# Altium schematic symbol library connector.SchLib: 87 symbols
Pins are listed as number, name and electrical type; pins without a type are passive.

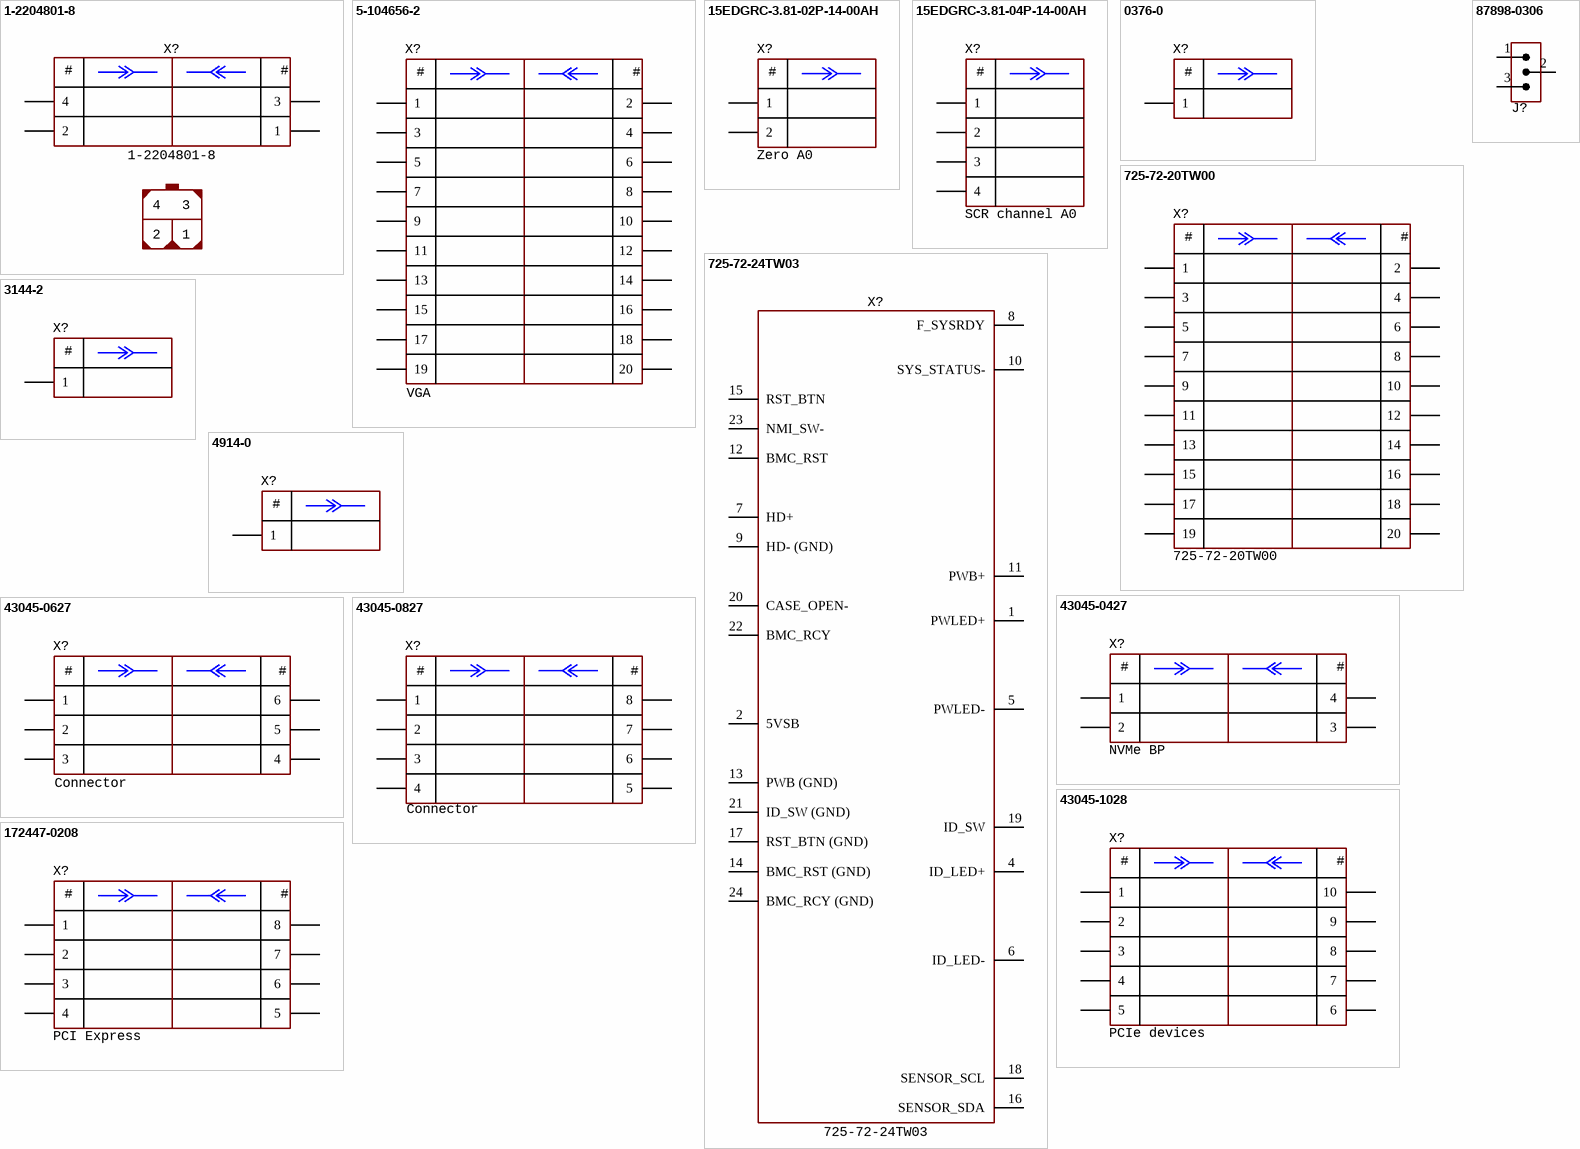
[diagram p0: symbols 1-2204801-8 to 172447-0208]

## 1-2204801-8
designator X?
MicroFit, 4 pins, pitch 3.0 mm, 600V, 12.5A/pin, -40...+105°C; Manufacturer: TE Connectivity; HelpURL: https://ru.mouser.com/ProductDetail/TE-Connectivity/1-2204801-8?qs=%252BEew9%252B0nqrDl53bfbgvSuA%3D%3D; Package: MicroFit; Manufacturer Part Number: 1-2204801-8; Component Type: Connectors; PartNumber: 1-2204801-8
footprint CON: 1-2204801-8 (MicroFit)
pins: 1, 2, 3, 4
text: #

## 5-104656-2
designator X?, comment VGA
20 pins, 2 rows, right angle, pitch 1.27mm, 800VAC, 1A, -65...+105°C; Manufacturer: TE Connectivity; PartNumber: 5-104656-2; Package: 20 pins; HelpURL: https://ru.mouser.com/ProductDetail/TE-Connectivity/5-104656-2?qs=Lt2NK3fy8LDvOZWSqf5A3Q%3D%3D; Manufacturer Part Number: 5-104656-2; Component Type: Connectors
footprint CON: 5-104656-2 (TE)
pins: 1, 2, 3, 4, 5, 6, 7, 8, 9, 10, 11, 12, 13, 14, 15, 16, 17, 18, 19, 20
text: #

## 15EDGRC-3.81-02P-14-00AH
designator X?, comment Zero A0
Terminal, 2 pins, pitch 3.81 mm, 8A/pin, 500VAC; PartNumber: 15EDGRC-3.81-02P-14-00AH; Manufacturer: Degson; Pitch: 3.81 mm; HelpURL: https://www.chipdip.ru/product/kls2-edr-3.81-02p-4-ech381r-02p; Manufacturer Part Number: 15EDGRC-3.81-02P-14-00AH; Component Type: Connectors
footprint CON: 15EDGRC-3.81-02P-14-00AH (Degson) (PLS-4 pin header)
pins: 1, 2
text: #

## 15EDGRC-3.81-04P-14-00AH
designator X?, comment SCR channel A0
Terminal, 4 pins, pitch 3.81 mm, 8A/pin, 500VAC; Manufacturer: Degson; PartNumber: 15EDGRC-3.81-04P-14-00AH; Pitch: 3.81 mm; HelpURL: https://www.chipdip.ru/product/kls2-edr-3.81-04p-4-ech381r-04p; Manufacturer Part Number: 15EDGRC-3.81-04P-14-00AH; Component Type: Connectors
footprint CON: 15EDGRC-3.81-04P-14-00AH (Degson) (PLS-4 pin header)
pins: 1, 2, 3 (power), 4 (power)
text: #

## 0376-0
designator X?
Power Pin, SMT, -55...+150°C; PartNumber: 0376-0-43-80-07-27-10-0; Manufacturer: Mill-Max; HelpURL: https://nl.mouser.com/ProductDetail/Mill-Max/0376-0-43-80-07-27-10-0?qs=SDfxZrmr%252BNnuJ4WrkVI9oQ%3D%3D
footprint CON: 0376-0 (Mill-Max)
pins: 1
text: #

## 725-72-20TW00
designator X?
20 pins, 2 rows, right angle, pitch 2mm, 800VAC, 3A, -25...+85°C; Manufacturer: Pinrex; HelpURL: https://www.pinrex.com.tw/en/product-detail.php?nid=440&Page=0; Package: 20 pins; Component Type: Connectors; PartNumber: 725-72-20TW00
footprint CON: 725-72-20TW00
pins: 1, 2, 3, 4, 5, 6, 7, 8, 9, 10, 11, 12, 13, 14, 15, 16, 17, 18, 19, 20
text: #

## 725-72-24TW03
designator X?
24 pins, 2 rows, right angle, pitch 2mm, 800VAC, 3A, -25...+85°C; Manufacturer: Pinrex; HelpURL: https://www.pinrex.com.tw/en/product-detail.php?nid=440&Page=0; Package: 24 pins; Component Type: Connectors; PartNumber: 725-72-24TW03
footprint CON: 725-72-24TW03
pins: 1 PWLED+, 2 5VSB, 4 ID_LED+, 5 PWLED-, 6 ID_LED-, 7 HD+, 8 F_SYSRDY, 9 HD- (GND), 10 SYS_STATUS-, 11 PWB+, 12 BMC_RST, 13 PWB (GND), 14 BMC_RST (GND), 15 RST_BTN, 16 SENSOR_SDA, 17 RST_BTN (GND), 18 SENSOR_SCL, 19 ID_SW, 20 CASE_OPEN-, 21 ID_SW (GND), 22 BMC_RCY, 23 NMI_SW-, 24 BMC_RCY (GND)

## 3144-2
designator X?
Power Pin, SMT, -55...+150°C; PartNumber: 3144-2-00-15-00-00-08-0; Manufacturer: Mill-Max; HelpURL: https://nl.mouser.com/ProductDetail/Mill-Max/3144-2-00-15-00-00-08-0?qs=1wcGhl1mtLNEqcD7AJY38Q%3D%3D
footprint CON: 3144-2 (Mill-Max)
pins: 1
text: #

## 4914-0
designator X?
Power Pin, SMT, -55...+150°C; PartNumber: 4914-0-00-15-00-00-03-0; Manufacturer: Mill-Max; HelpURL: https://nl.mouser.com/ProductDetail/Mill-Max/4914-0-00-15-00-00-03-0?qs=DRkmTr78QATYLGF4JJ41AA%3D%3D
footprint CON: 4914-0 (Mill-Max)
pins: 1
text: #

## 43045-0427
designator X?, comment NVMe BP
MicroFit, 4 pins, pitch 3.0 mm, 600V, 8.5A/pin, -40...+105°C; PartNumber: 43045-0427; Manufacturer: Molex; Package: MicroFit; HelpURL: https://ru.mouser.com/ProductDetail/Molex/43045-0427?qs=pWIReIhcJCQIugQJD1XCtw%3D%3D; Manufacturer Part Number: 43045-0427; Component Type: Connectors
footprint CON: 43045-0427 (MicroFit)
pins: 1, 2, 3, 4
text: #

## 43045-0627
designator X?, comment Connector
MicroFit, 6 pins, pitch 3.0 mm, 600V, 8.5A/pin, -40...+105°C; PartNumber: 43045-0627; Manufacturer: Molex; Package: MicroFit; HelpURL: https://eu.mouser.com/ProductDetail/Molex/43045-0627?qs=pWIReIhcJCQaGZnxO2uFjA%3D%3D
footprint CON: 43045-0628 (MicroFit)
pins: 1, 2, 3, 4, 5, 6
text: #

## 43045-0827
designator X?, comment Connector
MicroFit, 8 pins, pitch 3.0 mm, 600V, 8.5A/pin, -40...+105°C; PartNumber: 43045-0827; Manufacturer: Molex; Package: MicroFit; HelpURL: https://nl.mouser.com/ProductDetail/Molex/43045-0827?qs=q2qgWaULaqZ1Jeuw2khyfQ%3D%3D
footprint CON: 43045-0828 (MicroFit)
pins: 1, 2, 3, 4, 5, 6, 7, 8
text: #

## 43045-1028
designator X?, comment PCIe devices
MicroFit, 10 pins, pitch 3.0 mm, 600V, 8.5A/pin, -40...+105°C; PartNumber: 43045-1028; Manufacturer: Molex; HelpURL: https://ru.mouser.com/ProductDetail/Molex/43045-1028?qs=Awwwc1gvTnngW0MIXIKoDw%3D%3D; Package: MicroFit; Manufacturer Part Number: 43045-1028; Component Type: Connectors
footprint CON: 43045-1028 (MicroFit)
pins: 1, 2, 3, 4, 5, 6, 7, 8, 9, 10
text: #

## 87898-0306
designator J?, comment Jumper_3 pins  (value not drawn)
3 pins, pitch 2.54 mm, 250V, 3A/pin, -55..+105°C; Manufacturer: Molex; PartNumber: 87898-0306; Package: 3 pins; HelpURL: https://ru.mouser.com/ProductDetail/Molex/87898-0306?qs=snl1aE83ZDvC%252BK1Eig5fVg%3D%3D; Manufacturer Part Number: 87898-0306; Component Type: Connectors
footprint CON: 87898-0306
pins: 1 IN, 2 IN, 3 IN

## 172447-0208
designator X?, comment PCI Express
MiniFit, 8 pins, pitch 4.2 mm, 600V, 9A/pin, -40...+105°C; Manufacturer: Molex; PartNumber: 172447-0208; Manufacturer: Molex Waldom; Package: MiniFit; HelpURL: https://ru.mouser.com/ProductDetail/Molex/172447-0208?qs=c8NFF48pVsCQgdQ5PeIN9w%3D%3D; Manufacturer Part Number: 172447-0208; Component Type: Connectors
footprint CON: 172447-0208
pins: 1, 2, 3, 4, 5, 6, 7, 8
text: #

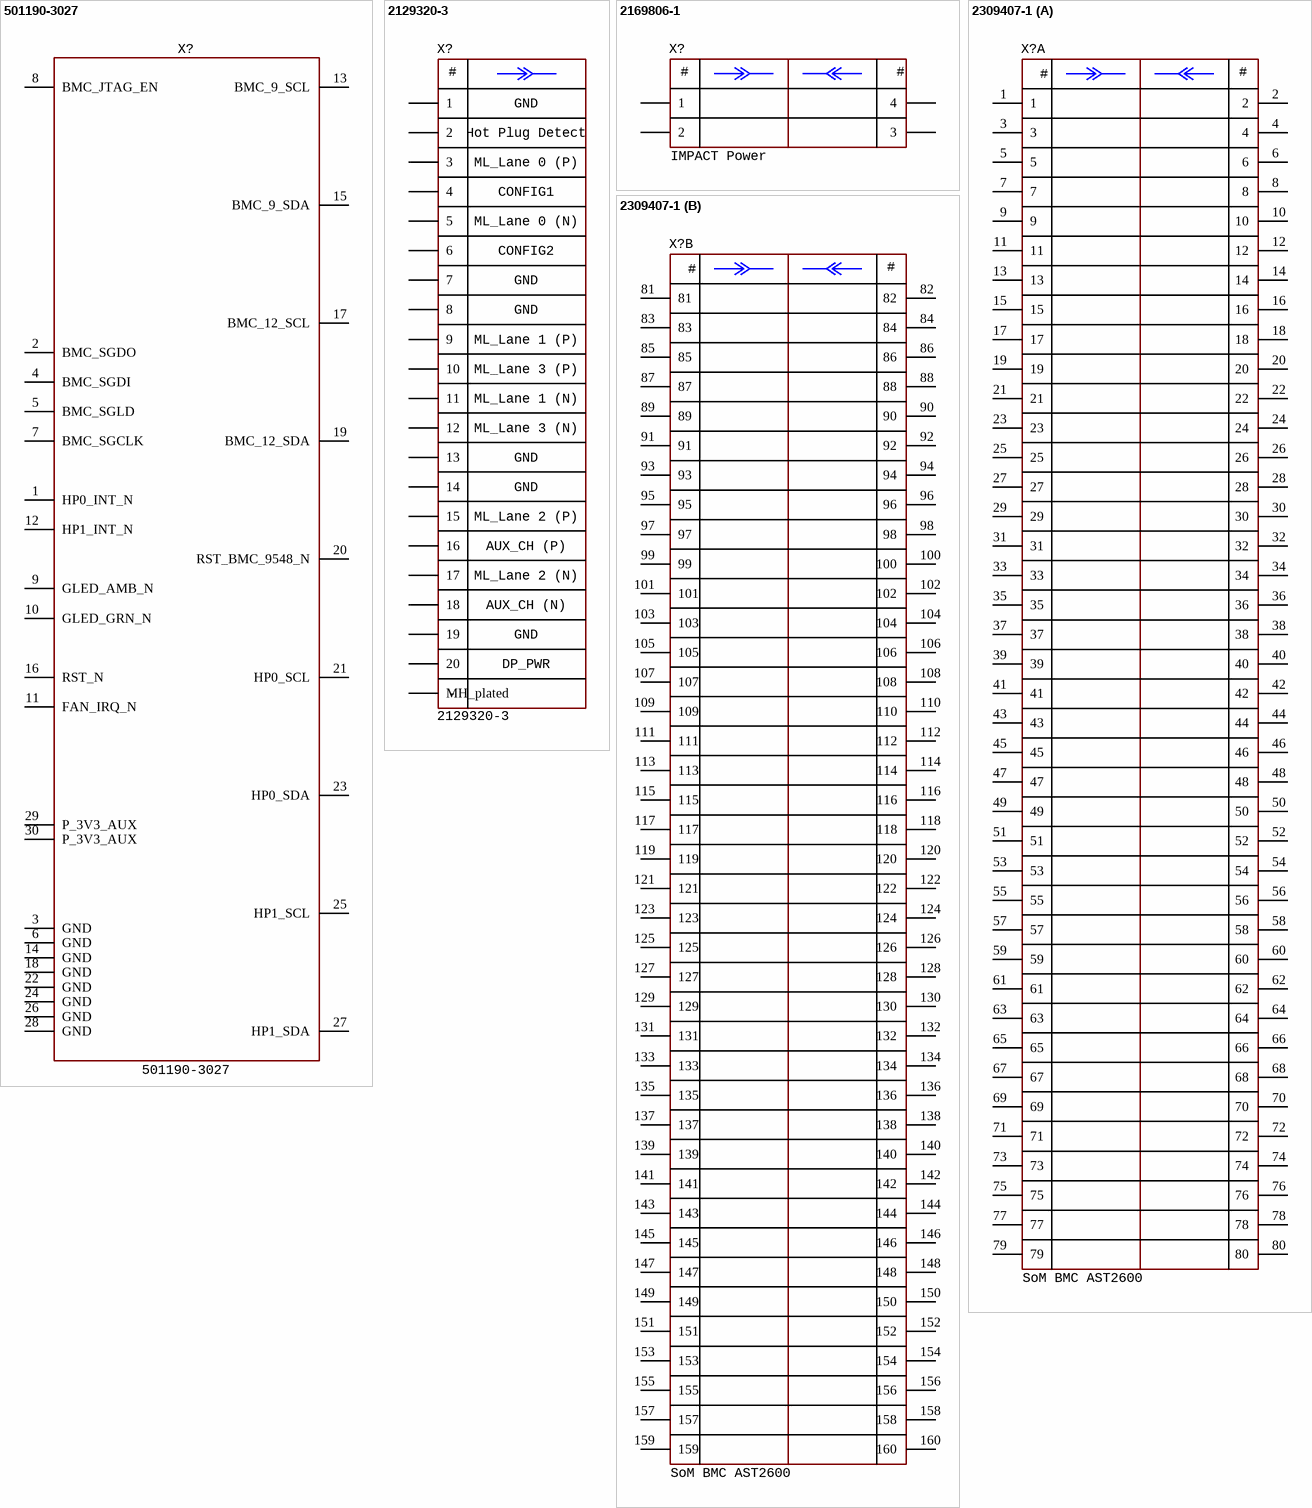
[diagram p1: symbols 501190-3027 to 2309407-1]

## 501190-3027
designator X?
30 pins, pitch 1 mm, 50V, 1A/pin, -40...+105°C; Manufacturer: Molex; HelpURL: https://ru.mouser.com/ProductDetail/Molex/501190-3027?qs=%2Fha2pyFaduhmP4t6q%252BLNjBayHtz4DJoiD%2FshP1L9CN4%3D; Package: 30 pins; Manufacturer Part Number: 501190-3027; Component Type: Connectors; PartNumber: 501190-3027
footprint CON: 501190-3027
pins: 1 HP0_INT_N, 2 BMC_SGDO, 3 GND, 4 BMC_SGDI, 5 BMC_SGLD, 6 GND, 7 BMC_SGCLK, 8 BMC_JTAG_EN, 9 GLED_AMB_N, 10 GLED_GRN_N, 11 FAN_IRQ_N, 12 HP1_INT_N, 13 BMC_9_SCL, 14 GND, 15 BMC_9_SDA, 16 RST_N, 17 BMC_12_SCL, 18 GND, 19 BMC_12_SDA, 20 RST_BMC_9548_N, 21 HP0_SCL, 22 GND, 23 HP0_SDA, 24 GND, 25 HP1_SCL, 26 GND, 27 HP1_SDA, 28 GND, 29 P_3V3_AUX, 30 P_3V3_AUX

## 2129320-3
designator X?
Mini Displayport, 20 pins, 40V, 500mA, -40...+85°C; Manufacturer: TE Connectivity; Package: 20 pins; HelpURL: https://www.mouser.com/ProductDetail/TE-Connectivity/2129320-3?qs=gAfoL%252BRo%2FrI4Ejukv56dUQ%3D%3D; Manufacturer Part Number: 2129320-3; Component Type: Connectors; PartNumber: 2129320-3
footprint CON: 2129320-3 (mini DisplayPort)
pins: 1, 2, 3, 4, 5, 6, 7, 8, 9, 10, 11, 12, 13, 14, 15, 16, 17, 18, 19, 20, MH_plated
text: #; GND; Hot Plug Detect; ML_Lane 0 (P); CONFIG1; ML_Lane 0 (N); CONFIG2; ML_Lane 1 (P); ML_Lane 3 (P); ML_Lane 1 (N); ML_Lane 3 (N); ML_Lane 2 (P); AUX_CH (P); ML_Lane 2 (N); AUX_CH (N); DP_PWR; -

## 2169806-1
designator X?  Package: IMPACT Power  (hidden comment: 2169806-1)
IMPACT, 4 pins, pitch 5.2 mm, 48V, 15A/pin, -55...+85°C; Manufacturer: TE Connectivity; HelpURL: https://ru.mouser.com/ProductDetail/TE-Connectivity/2169806-1?qs=sGAEpiMZZMvlX3nhDDO4AMdvGaAo8O2GUpJP6EXVajA%3D; PartNumber: 2169806-1; Manufacturer Part Number: 2169806-1; Component Type: Connectors
footprint CON: 2169806-1
pins: 1, 2, 3, 4
text: #

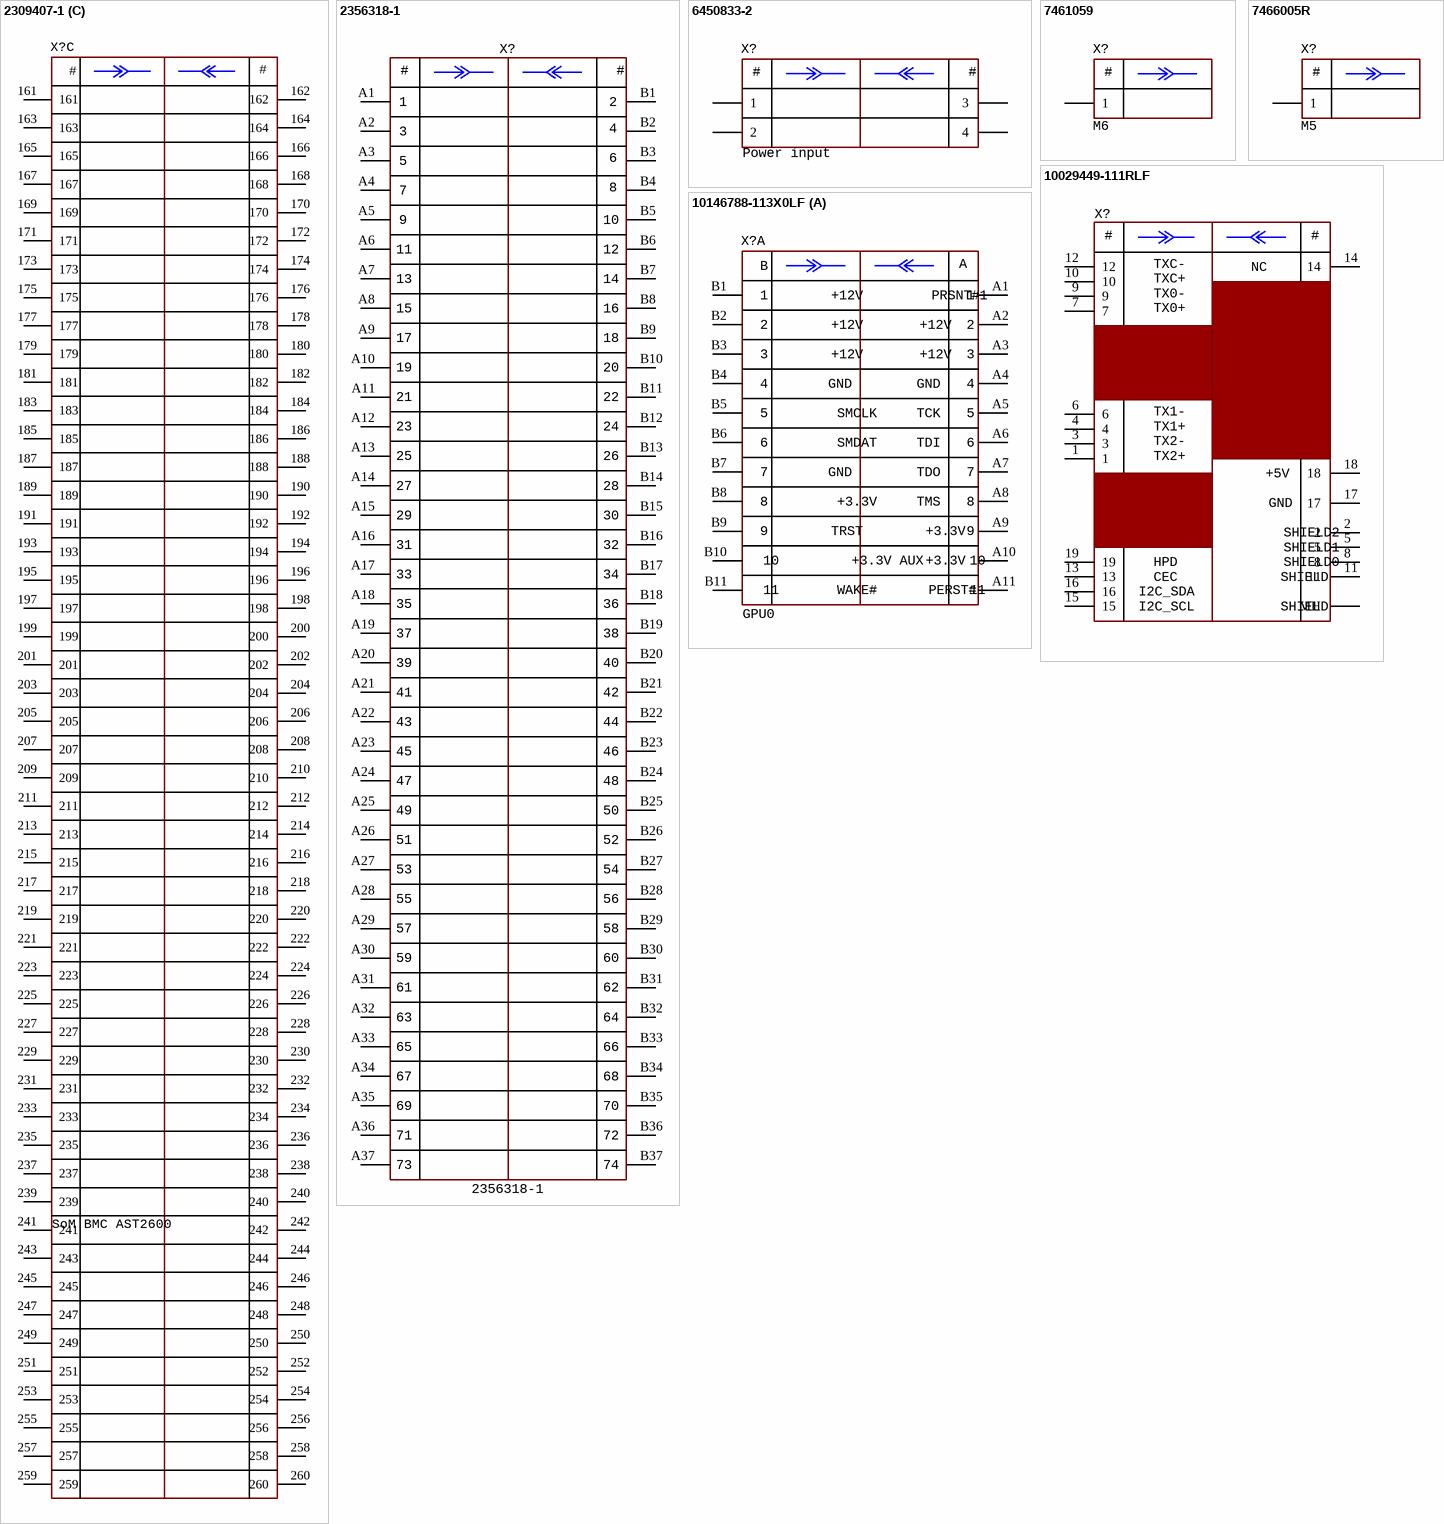
[diagram p2: symbols 2309407-1 to 10146788-113X0LF]

## 2309407-1
designator X?, comment SoM BMC AST2600
SODIMM DDR4, 260 pins, pitch 0.5 mm, 0.5A/pin, Right Angle, -55...+85C; Manufacturer: TE connectivity; PartNumber: 2309407-1; Pitch: 0.5mm; HelpURL: https://www.digikey.com/en/products/detail/te-connectivity-amp-connectors/2309407-1/7793534; Manufacturer: TE Connectivity; Manufacturer Part Number: 2309407-1; Component Type: Connectors
footprint CON: 2309407-1 (TE, SODIMM DDR4)
part A pins: 1, 2, 3, 4, 5, 6, 7, 8, 9, 10, 11, 12, 13, 14, 15, 16, 17, 18, 19, 20, 21, 22, 23, 24, 25, 26, 27, 28, 29, 30, 31, 32, 33, 34, 35, 36, 37, 38, 39, 40, 41, 42, 43, 44, 45, 46, 47, 48, 49, 50, 51, 52, 53, 54, 55, 56, 57, 58, 59, 60, 61, 62, 63, 64, 65, 66, 67, 68, 69, 70, 71, 72, 73, 74, 75, 76, 77, 78, 79, 80
part B pins: 81, 82, 83, 84, 85, 86, 87, 88, 89, 90, 91, 92, 93, 94, 95, 96, 97, 98, 99, 100, 101, 102, 103, 104, 105, 106, 107, 108, 109, 110, 111, 112, 113, 114, 115, 116, 117, 118, 119, 120, 121, 122, 123, 124, 125, 126, 127, 128, 129, 130, 131, 132, 133, 134, 135, 136, 137, 138, 139, 140, 141, 142, 143, 144, 145, 146, 147, 148, 149, 150, 151, 152, 153, 154, 155, 156, 157, 158, 159, 160
part C pins: 161, 162, 163, 164, 165, 166, 167, 168, 169, 170, 171, 172, 173, 174, 175, 176, 177, 178, 179, 180, 181, 182, 183, 184, 185, 186, 187, 188, 189, 190, 191, 192, 193, 194, 195, 196, 197, 198, 199, 200, 201, 202, 203, 204, 205, 206, 207, 208, 209, 210, 211, 212, 213, 214, 215, 216, 217, 218, 219, 220, 221, 222, 223, 224, 225, 226, 227, 228, 229, 230, 231, 232, 233, 234, 235, 236, 237, 238, 239, 240, 241, 242, 243, 244, 245, 246, 247, 248, 249, 250, 251, 252, 253, 254, 255, 256, 257, 258, 259, 260
part A text: #
part B text: #
part C text: #

## 2356318-1
designator X?
SlimSAS, x8 line, 74 pins, 0.5A/pin, SFF-8654, vertical, -55...+85°C; Manufacturer: TE connectivity; Manufacturer: TE Connectivity AMP; Multichannel: 74pin; HelpURL: https://www.te.com/usa-en/product-2356318-1.html; Manufacturer Part Number: 2356318-1; Component Type: Connectors; PartNumber: 2356318-1
footprint CON: 2356318-1 (SlimSAS)
pins: A1, A2, A3, A4, A5, A6, A7, A8, A9, A10, A11, A12, A13, A14, A15, A16, A17, A18, A19, A20, A21, A22, A23, A24, A25, A26, A27, A28, A29, A30, A31, A32, A33, A34, A35, A36, A37, B1, B2, B3, B4, B5, B6, B7, B8, B9, B10, B11, B12, B13, B14, B15, B16, B17, B18, B19, B20, B21, B22, B23, B24, B25, B26, B27, B28, B29, B30, B31, B32, B33, B34, B35, B36, B37
text: #; 1; 2; 3; 4; 5; 6; 7; 8; 9; 10; 11; 12; 13; 14; 15; 16; 17; 18; 19; 20; 21; 22; 23; 24; 25; 26; 27; 28; 29; 30; 31; 32; 33; 34; 35; 36; 37; 38; 39; 40; 41; 42; 43; 44; 45; 46; 47; 48; 49; 50; 51; 52; 53; 54; 55; 56; 57; 58; 59; 60; 61; 62; 63; 64; 65; 66; 67; 68; 69; 70; 71; 72; 73; 74

## 6450833-2
designator X?, comment Power input
Power, 4 pins, pitch 6.35 mm, 200V, 50A/pin, -40...+125°C; PartNumber: 6450833-2; Manufacturer: TE connectivity; Package: Milti-Beam; HelpURL: https://www.te.com/usa-en/product-6450833-2.html; Manufacturer Part Number: 6450833-2; Component Type: Connectors
footprint CON: 6450833-2
pins: 1, 2, 3, 4
text: #

## 7461059
designator X?, comment M6
Power, 240A, screw M6, SMT, -55...+150°C; Manufacturer: Wurth; PartNumber: 7461059; Manufacturer: Wurth Electronics; Manufacturer Part Number: 746105-9; HelpURL: https://ru.mouser.com/ProductDetail/Wurth-Elektronik/7461059?qs=wr8lucFkNMXpCcsX18jYrg%3D%3D; CurrentMax: 240A; Component Type: Connectors
footprint CON: 7461059 (Wurth, connector)
pins: 1
text: #

## 7466005R
designator X?, comment M5
Power, 70A, screw M5, SMT, -55...+150°C; PartNumber: 7466005R; Manufacturer: Wurth; Manufacturer: Wurth Electronics; CurrentMax: 70A; HelpURL: https://ru.mouser.com/ProductDetail/Wurth-Elektronik/7466005R?qs=%2Fha2pyFaduhfC75xZf%2FkSPkISoniVULe8jSjv8nZiNA%3D; Manufacturer Part Number: 7466005R; Component Type: Connectors
footprint CON: 7466005R (Wurth, connector)
pins: 1
text: #

## 10029449-111RLF
designator X?  (value not drawn)
HDMI 1.4, 0.5A/pin, 19 pins, -20...+85°C
footprint CON: HDMI_10029449-111RLF (HDMI 1.4, Amphenol)
pins: 1, 2, 3, 4, 5, 6, 7, 8, 9, 10, 11, 12, 13, 14, 15, 16, 17, 18, 19, MH (power)
text: #; TXC-; NC; TXC+; TX0-; TX0+; TX1-; TX1+; TX2-; TX2+; +5V; GND; SHIELD2; SHIELD1; HPD; SHIELD0; CEC; SHIELD; I2C_SDA; I2C_SCL

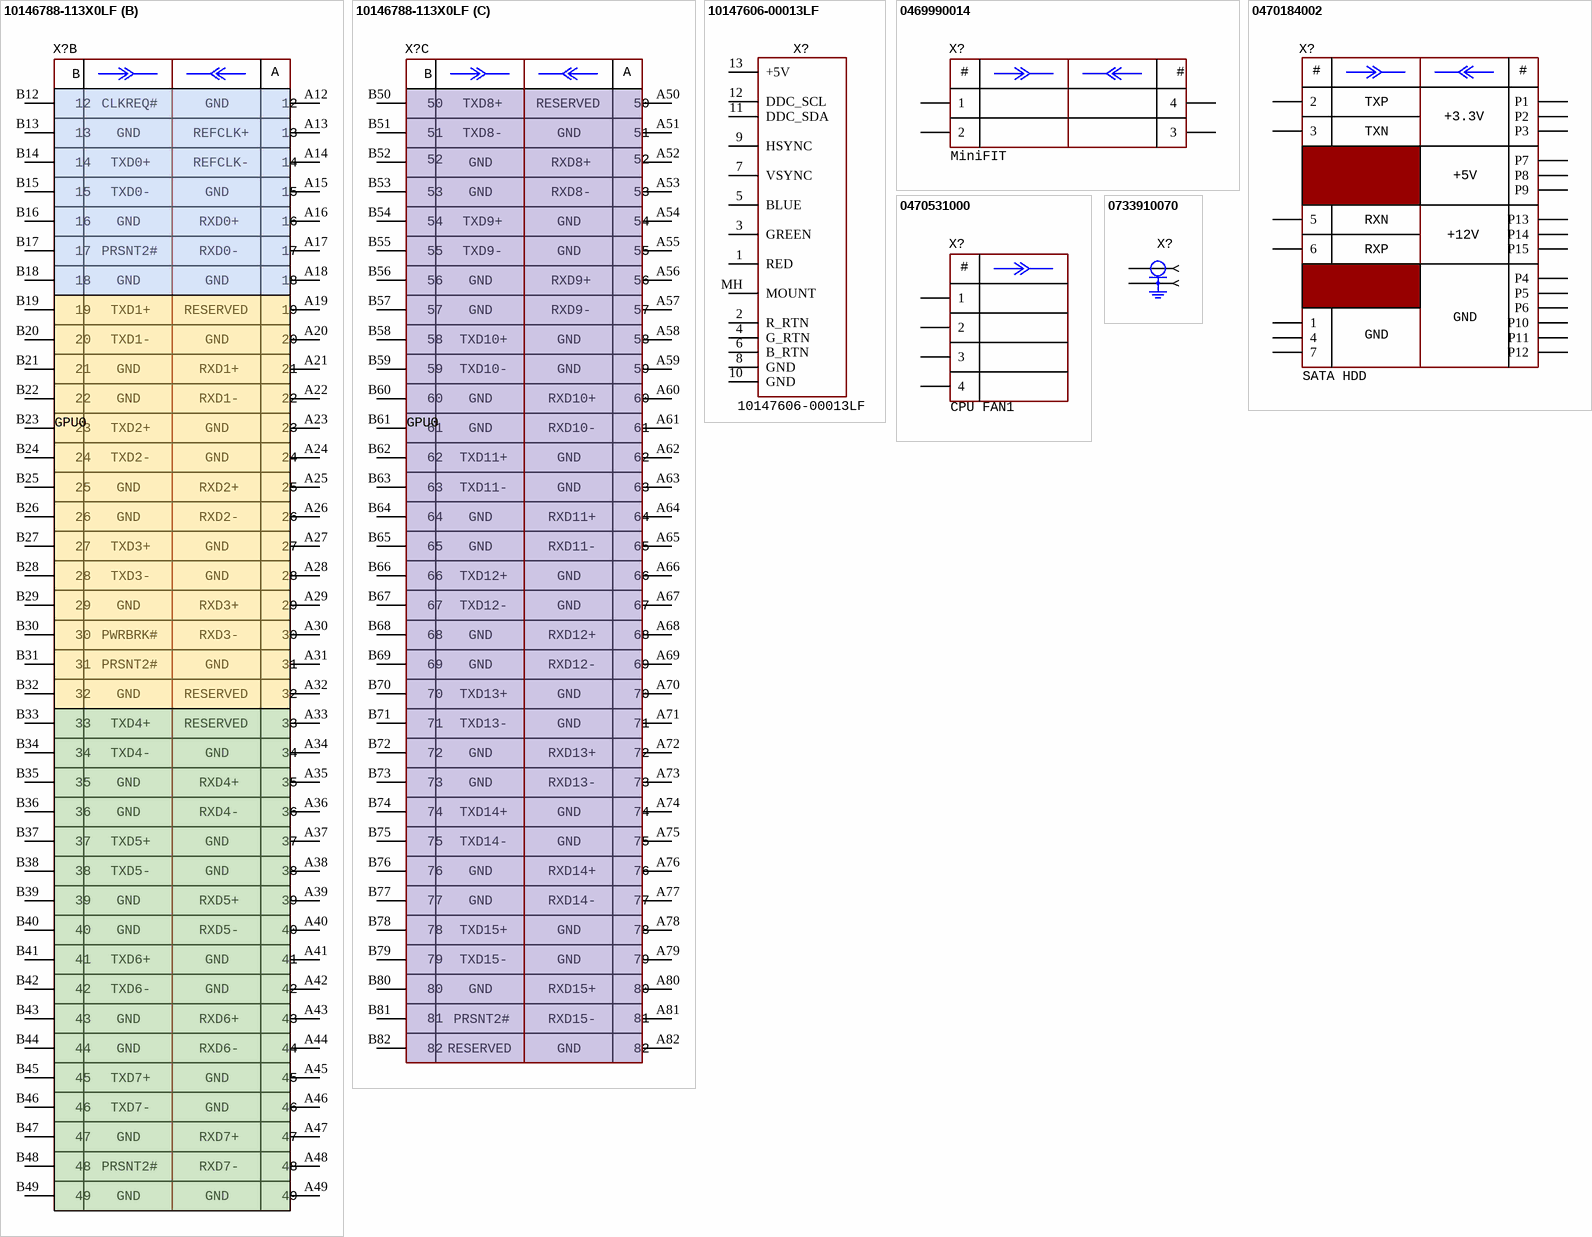
[diagram p3: symbols 10146788-113X0LF to 0733910070]

## 10146788-113X0LF
designator X?, comment GPU0
PCI Express, Gen 4.0, x16 lines, 16 GT/s, 164 pins, pitch 1.0 mm, -40...+85°C; Manufacturer: Amphenol; PartNumber: 10146788-113X0LF; Package: 164 pins; HelpURL: https://ru.mouser.com/ProductDetail/Amphenol-FCI/10146788-113X0LF?qs=%2Fha2pyFaduiZ3BNDDmmOwFvvuIsdFP13VBsbwrHibeSmGIMmp8JGvg%3D%3D; Manufacturer Part Number: 10146788-113X0LF; Component Type: Connectors
footprint CON: 10146788-113X0LF (PCIe gen 4, Amphenol)
part A pins: A1, A2, A3, A4, A5, A6, A7, A8, A9, A10, A11, B1, B2, B3, B4, B5, B6, B7, B8, B9, B10, B11
part B pins: A12, A13, A14, A15, A16, A17, A18, A19, A20, A21, A22, A23, A24, A25, A26, A27, A28, A29, A30, A31, A32, A33, A34, A35, A36, A37, A38, A39, A40, A41, A42, A43, A44, A45, A46, A47, A48, A49, B12, B13, B14, B15, B16, B17, B18, B19, B20, B21, B22, B23, B24, B25, B26, B27, B28, B29, B30, B31, B32, B33, B34, B35, B36, B37, B38, B39, B40, B41, B42, B43, B44, B45, B46, B47, B48, B49
part C pins: A50, A51, A52, A53, A54, A55, A56, A57, A58, A59, A60, A61, A62, A63, A64, A65, A66, A67, A68, A69, A70, A71, A72, A73, A74, A75, A76, A77, A78, A79, A80, A81, A82, B50, B51, B52, B53, B54, B55, B56, B57, B58, B59, B60, B61, B62, B63, B64, B65, B66, B67, B68, B69, B70, B71, B72, B73, B74, B75, B76, B77, B78, B79, B80, B81, B82
part A text: B; A; 1; +12V; PRSNT#1; 2; 3; 4; GND; 5; SMCLK; TCK; 6; SMDAT; TDI; 7; TDO; 8; +3.3V; TMS; 9; TRST; 10; +3.3V AUX; 11; WAKE#; PERST#
part B text: B; A; 12; CLKREQ#; GND; 13; REFCLK+; 14; TXD0+; REFCLK-; 15; TXD0-; 16; RXD0+; 17; PRSNT2#; RXD0-; 18; 19; TXD1+; RESERVED; 20; TXD1-; 21; RXD1+; 22; RXD1-; 23; TXD2+; 24; TXD2-; 25; RXD2+; 26; RXD2-; 27; TXD3+; 28; TXD3-; 29; RXD3+; 30; PWRBRK#; RXD3-; 31; 32; 33; TXD4+; 34; TXD4-; 35; RXD4+; 36; RXD4-; 37; TXD5+; 38; TXD5-; 39; RXD5+; 40; RXD5-; 41; TXD6+; 42; TXD6-; 43; RXD6+; 44; RXD6-; 45; TXD7+; 46; TXD7-; 47; RXD7+; 48; RXD7-; 49
part C text: B; A; 50; TXD8+; RESERVED; 51; TXD8-; GND; 52; RXD8+; 53; RXD8-; 54; TXD9+; 55; TXD9-; 56; RXD9+; 57; RXD9-; 58; TXD10+; 59; TXD10-; 60; RXD10+; 61; RXD10-; 62; TXD11+; 63; TXD11-; 64; RXD11+; 65; RXD11-; 66; TXD12+; 67; TXD12-; 68; RXD12+; 69; RXD12-; 70; TXD13+; 71; TXD13-; 72; RXD13+; 73; RXD13-; 74; TXD14+; 75; TXD14-; 76; RXD14+; 77; RXD14-; 78; TXD15+; 79; TXD15-; 80; RXD15+; 81; PRSNT2#; RXD15-; 82

## 10147606-00013LF
designator X?
Minitek, 13 pins, pitch 1mm, 50V, 1A, right angle, -25...+85°C; Manufacturer: Amphenol; Manufacturer: Amphenol ICC; Package: 13 pins; HelpURL: https://ru.mouser.com/ProductDetail/Amphenol-FCI/10147606-00013LF?qs=byeeYqUIh0MSYaZnBqn0EQ%3D%3D; Manufacturer Part Number: 10147606-00013LF; Component Type: Connectors; PartNumber: 10147606-00013LF
footprint CON: 10147606-00013LF (Amphenol)
pins: 1 RED, 2 R_RTN, 3 GREEN, 4 G_RTN, 5 BLUE, 6 B_RTN, 7 VSYNC, 8 GND, 9 HSYNC, 10 GND, 11 DDC_SDA, 12 DDC_SCL, 13 +5V, MH MOUNT

## 0469990014
designator X?, comment MiniFIT
MiniFit, 4 pins, pitch 4.2 mm, 600V, 20A/pin, -40...+105°C; PartNumber: 0469990014; Manufacturer: Molex; Manufacturer Part Number: 172447-0206; Package: MiniFit; HelpURL: https://www.digikey.com/en/products/detail/molex/0469990014/4553678; Component Type: Connectors
footprint CON: 0469990014 (MiniFitm 4 pins, 90)
pins: 1, 2, 3, 4
text: #

## 0470184002
designator X?, comment SATA HDD
SATA HDD, 7+15 pins, 24 GT/s, Right angle, -55...+85°C; Manufacturer: Molex; PartNumber: 0470184002; Multichannel: 74pin; HelpURL: https://www.amphenol-cs.com/slim-line-sas-u10a474200t.html
footprint CON: 0470184002 (Molex, SATA HDD)
pins: 1, 2, 3, 4, 5, 6, 7, P1, P2, P3, P4, P5, P6, P7, P8, P9, P10, P11, P12, P13, P14, P15
text: #; TXP; +3.3V; TXN; +5V; RXN; +12V; RXP; GND

## 0470531000
designator X?, comment CPU FAN1
Fan, 4 pins, pitch 2.54 mm, 3A/pins, 600V, -40...+125°C; PartNumber: 0470531000; Manufacturer: Molex; Pitch: 2.54mm; HelpURL: https://www.digikey.com/en/products/detail/molex/0470531000/2421261?s=N4IgTCBcDaICwHYAMBWAzAWgIxNyAugL5A; Manufacturer Part Number: 0470531000; Component Type: Connectors
footprint CON: 0470531000 (Molex, CPU fan)
pins: 1, 2, 3, 4 (power)
text: #

## 0733910070
designator X?, comment SMA  (value not drawn)
SMA, RF type, 50 Ohms, 18GHz, -40...+125°C; PartNumber: 0733910070; Manufacturer: Molex; Pitch: SMA; HelpURL: https://www.digikey.com/en/products/detail/molex/0733910070/1465166
footprint CON: SMA
pins: 1, 2

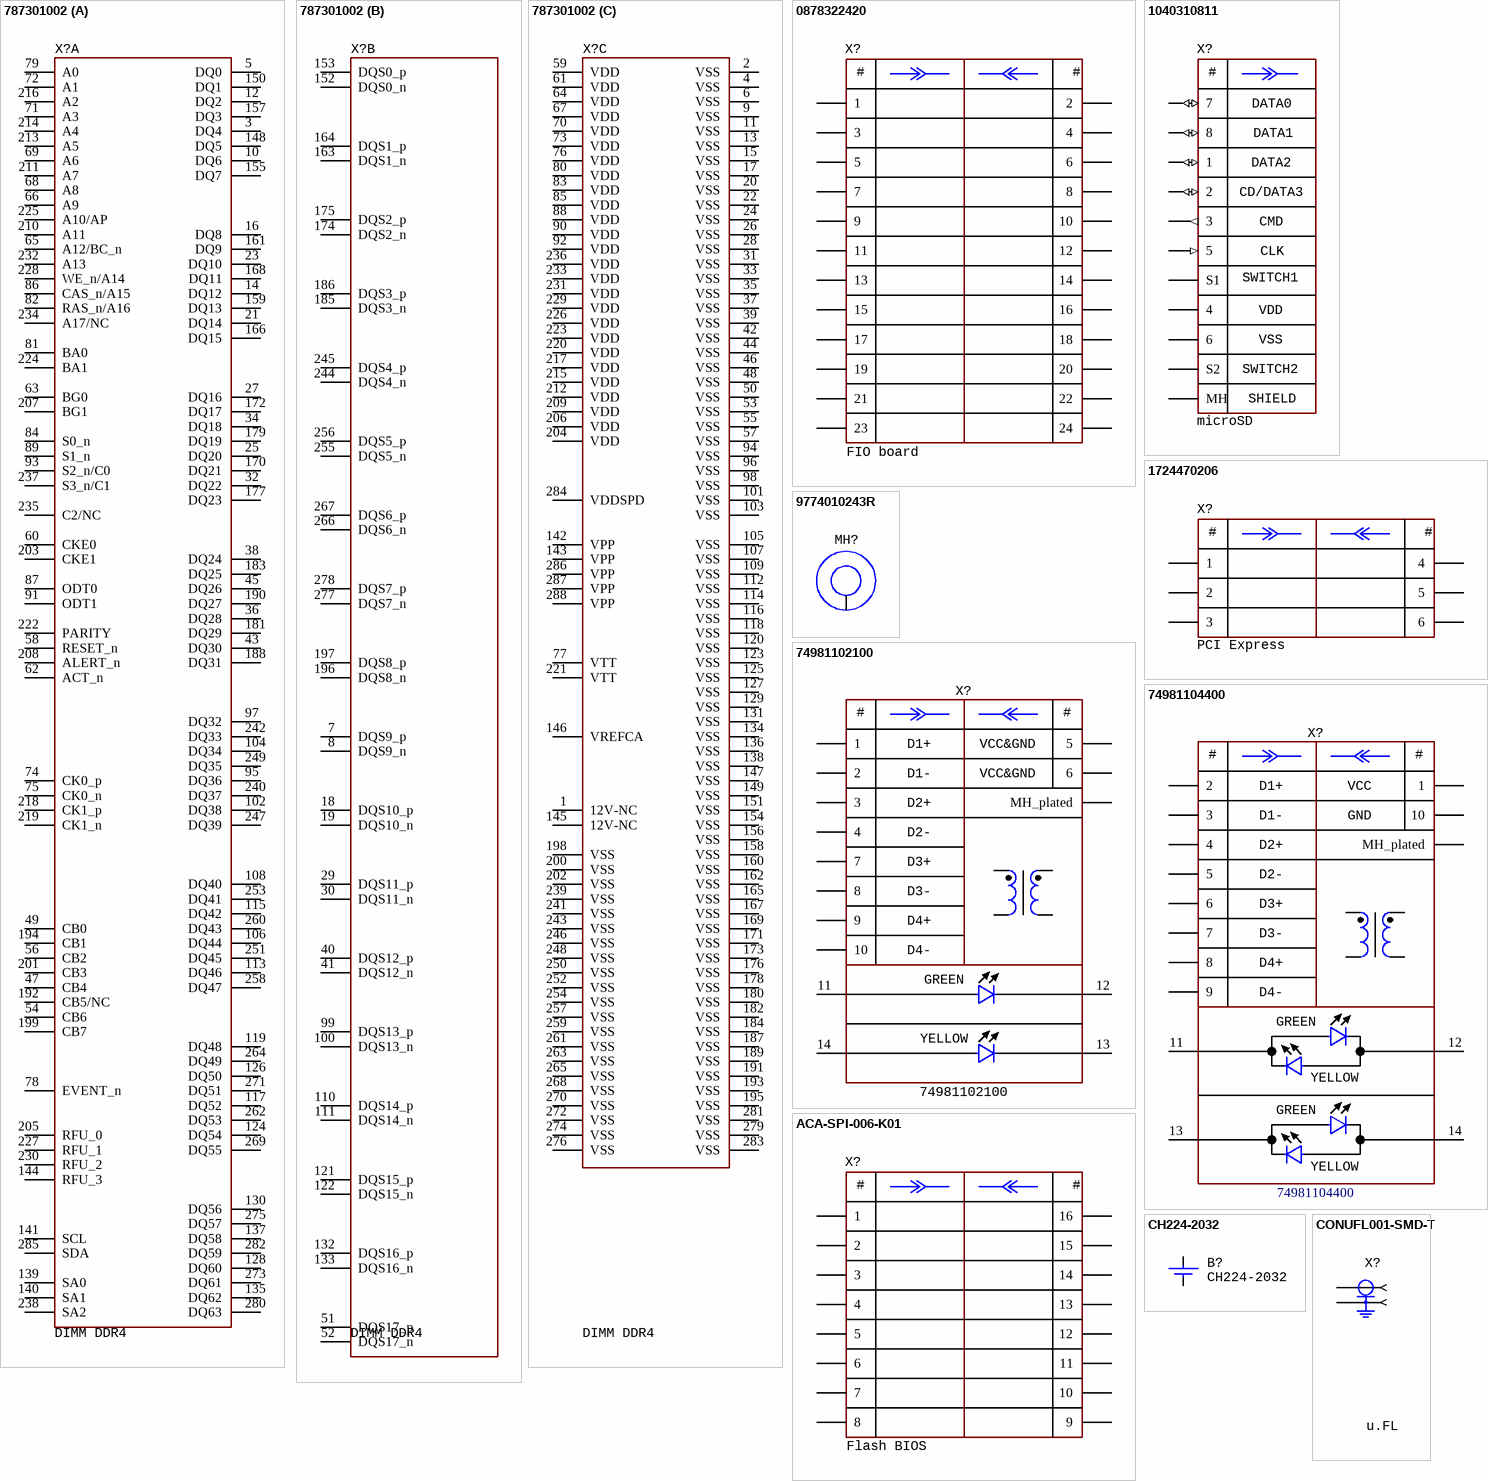
[diagram p4: symbols 787301002 to CONUFL001-SMD-T]

## 787301002
designator X?, comment DIMM DDR4
DIMM DDR4, 288 pins, pitch 0.85 mm, 0.75A/pitch, -55...+85°C; Manufacturer: Molex; PartNumber: 787301002; Manufacturer: Molex Waldom; Manufacturer Part Number: 78730-1002; Package: DIMM288; HelpURL: https://ru.mouser.com/ProductDetail/Molex/78730-1002?qs=KpdAywxU010ovIFyMH8J7A%3D%3D; Component Type: Connectors
footprint CON: 787301002 (Molex, DIMM DDR4) (DIMM DDR4 288 pins)
part A pins: 3 DQ4, 5 DQ0, 10 DQ6, 12 DQ2, 14 DQ12, 16 DQ8, 21 DQ14, 23 DQ10, 25 DQ20, 27 DQ16, 32 DQ22, 34 DQ18, 36 DQ28, 38 DQ24, 43 DQ30, 45 DQ26, 47 CB4, 49 CB0, 54 CB6, 56 CB2, 58 RESET_n, 60 CKE0, 62 ACT_n, 63 BG0, 65 A12/BC_n, 66 A9, 68 A8, 69 A6, 71 A3, 72 A1, 74 CK0_p, 75 CK0_n, 78 EVENT_n, 79 A0, 81 BA0, 82 RAS_n/A16, 84 S0_n, 86 CAS_n/A15, 87 ODT0, 89 S1_n, 91 ODT1, 93 S2_n/C0, 95 DQ36, 97 DQ32, 102 DQ38, 104 DQ34, 106 DQ44, 108 DQ40, 113 DQ46, 115 DQ42, 117 DQ52, 119 DQ48, 124 DQ54, 126 DQ50, 128 DQ60, 130 DQ56, 135 DQ62, 137 DQ58, 139 SA0, 140 SA1, 141 SCL, 144 RFU_3, 148 DQ5, 150 DQ1, 155 DQ7, 157 DQ3, 159 DQ13, 161 DQ9, 166 DQ15, 168 DQ11, 170 DQ21, 172 DQ17, 177 DQ23, 179 DQ19, 181 DQ29, 183 DQ25, 188 DQ31, 190 DQ27, 192 CB5/NC, 194 CB1, 199 CB7, 201 CB3, 203 CKE1, 205 RFU_0, 207 BG1, 208 ALERT_n, 210 A11, 211 A7, 213 A5, 214 A4, 216 A2, 218 CK1_p, 219 CK1_n, 222 PARITY, 224 BA1, 225 A10/AP, 227 RFU_1, 228 WE_n/A14, 230 RFU_2, 232 A13, 234 A17/NC, 235 C2/NC, 237 S3_n/C1, 238 SA2, 240 DQ37, 242 DQ33, 247 DQ39, 249 DQ35, 251 DQ45, 253 DQ41, 258 DQ47, 260 DQ43, 262 DQ53, 264 DQ49, 269 DQ55, 271 DQ51, 273 DQ61, 275 DQ57, 280 DQ63, 282 DQ59, 285 SDA
part B pins: 7 DQS9_p, 8 DQS9_n, 18 DQS10_p, 19 DQS10_n, 29 DQS11_p, 30 DQS11_n, 40 DQS12_p, 41 DQS12_n, 51 DQS17_p, 52 DQS17_n, 99 DQS13_p, 100 DQS13_n, 110 DQS14_p, 111 DQS14_n, 121 DQS15_p, 122 DQS15_n, 132 DQS16_p, 133 DQS16_n, 152 DQS0_n, 153 DQS0_p, 163 DQS1_n, 164 DQS1_p, 174 DQS2_n, 175 DQS2_p, 185 DQS3_n, 186 DQS3_p, 196 DQS8_n, 197 DQS8_p, 244 DQS4_n, 245 DQS4_p, 255 DQS5_n, 256 DQS5_p, 266 DQS6_n, 267 DQS6_p, 277 DQS7_n, 278 DQS7_p
part C pins: 1 12V-NC, 2 VSS, 4 VSS, 6 VSS, 9 VSS, 11 VSS, 13 VSS, 15 VSS, 17 VSS, 20 VSS, 22 VSS, 24 VSS, 26 VSS, 28 VSS, 31 VSS, 33 VSS, 35 VSS, 37 VSS, 39 VSS, 42 VSS, 44 VSS, 46 VSS, 48 VSS, 50 VSS, 53 VSS, 55 VSS, 57 VSS, 59 VDD, 61 VDD, 64 VDD, 67 VDD, 70 VDD, 73 VDD, 76 VDD, 77 VTT, 80 VDD, 83 VDD, 85 VDD, 88 VDD, 90 VDD, 92 VDD, 94 VSS, 96 VSS, 98 VSS, 101 VSS, 103 VSS, 105 VSS, 107 VSS, 109 VSS, 112 VSS, 114 VSS, 116 VSS, 118 VSS, 120 VSS, 123 VSS, 125 VSS, 127 VSS, 129 VSS, 131 VSS, 134 VSS, 136 VSS, 138 VSS, 142 VPP, 143 VPP, 145 12V-NC, 146 VREFCA, 147 VSS, 149 VSS, 151 VSS, 154 VSS, 156 VSS, 158 VSS, 160 VSS, 162 VSS, 165 VSS, 167 VSS, 169 VSS, 171 VSS, 173 VSS, 176 VSS, 178 VSS, 180 VSS, 182 VSS, 184 VSS, 187 VSS, 189 VSS, 191 VSS, 193 VSS, 195 VSS, 198 VSS, 200 VSS, 202 VSS, 204 VDD, 206 VDD, 209 VDD, 212 VDD, 215 VDD, 217 VDD, 220 VDD, 221 VTT, 223 VDD, 226 VDD, 229 VDD, 231 VDD, 233 VDD, 236 VDD, 239 VSS, 241 VSS, 243 VSS, 246 VSS, 248 VSS, 250 VSS, 252 VSS, 254 VSS, 257 VSS, 259 VSS, 261 VSS, 263 VSS, 265 VSS, 268 VSS, 270 VSS, 272 VSS, 274 VSS, 276 VSS, 279 VSS, 281 VSS, 283 VSS, 284 VDDSPD, 286 VPP, 287 VPP, 288 VPP

## 0878322420
designator X?, comment FIO board
24 pins, 2 rows, vertical, pitch 2.0mm, 800VAC, 1A, -55...+105°C; PartNumber: 0878322420; Manufacturer: Molex; HelpURL: https://ru.mouser.com/ProductDetail/Molex/87832-2420?qs=vZWlbdSpF0EW3Ua8ltGHVA%3D%3D; Package: 24 pins; Manufacturer Part Number: 0878322420; Component Type: Connectors
footprint CON: 0878322420 (Molex)
pins: 1, 2, 3, 4, 5, 6, 7, 8, 9, 10, 11, 12, 13, 14, 15, 16, 17, 18, 19, 20, 21, 22, 23, 24
text: #

## 1040310811
designator X?  CommentText: microSD
Micro SD card; Manufacturer: Molex; PartNumber: 1040310811; HelpURL: https://www.digikey.com/en/products/detail/molex/1040310811/2370379; TypeConnector: MicroSD
footprint CON: 1040310811 (Molex, SD card)
pins: 1 (io), 2 (io), 3 (out), 4 (power), 5 (in), 6 (power), 7 (io), 8 (io), MH (power), S1 (power), S2 (power)
text: #; DATA0; DATA1; DATA2; CD/DATA3; CMD; CLK; SWITCH1; VDD; VSS; SWITCH2; SHIELD

## 1724470206
designator X?, comment PCI Express
MiniFit, 6 pins, pitch 4.2 mm, 600V, 20A/pin, -40...+105°C; PartNumber: 1724470206; Manufacturer: Molex; Manufacturer Part Number: 172447-0206; Package: MiniFit; HelpURL: https://ru.mouser.com/ProductDetail/Molex/172447-0206?qs=%2Fha2pyFaduiUkFjULGNAvzlB%252B0wEFVBBxvHZprz4rk8b57tECn5pOQ%3D%3D; Component Type: Connectors
footprint CON: 1724470206 (MiniFit)
pins: 1, 2, 3, 4, 5, 6
text: #

## 9774010243R
designator MH?
Heatsink, screw M2, SMT, -55...+150°C; PartNumber: 9774010243R; Manufacturer: Wurth; HelpURL: https://nl.mouser.com/ProductDetail/Wurth-Elektronik/9774010243R?qs=KRpiEsko4HkaTqaGk3jJpg%3D%3D
footprint CON: 9774010243R (M2 screw)
pins: 1

## 74981102100
designator X?
RJ45 with transformer, Straight, 10/100Base-T, Yellow/Green LED, -40...85°C; Manufacturer: Wurth; HelpURL: https://eu.mouser.com/ProductDetail/Wurth-Elektronik/74981102100?qs=OlC7AqGiEDmN%252BWxPDVYJ%252Bw%3D%3D; Pitch: RJ45; PartNumber: 74981102100
footprint 74981102100 (Ethernet RJ45 with transformer, Wurth)
pins: 1, 2, 3, 4, 5, 6, 7, 8, 9, 10, 11, 12, 13, 14, MH_plated
text: #; D1+; VCC&GND; D1-; D2+; D2-; D3+; D3-; D4+; D4-; GREEN; YELLOW

## 74981104400
designator X?
RJ45 with transformer, 10/100Base-T, Yellow/Green LED, -40...85°C; Manufacturer: Wurth; Manufacturer: Wurth Electronics; HelpURL: https://www.mouser.com/ProductDetail/Wurth-Elektronik/74981104400?qs=T3oQrply3y8se8rzJsvDgg%3D%3D; Pitch: RJ45; Manufacturer Part Number: 74981104400; Component Type: Connectors; PartNumber: 74981104400
footprint CON: 74981104400 (Ethernet RJ45 with transformer, Wurth)
pins: 1, 2, 3, 4, 5, 6, 7, 8, 9, 10, 11, 12, 13, 14, MH_plated
text: #; D1+; VCC; D1-; GND; D2+; D2-; D3+; D3-; D4+; D4-; GREEN; YELLOW

## ACA-SPI-006-K01
designator X?, comment Flash BIOS
SOIC-16 panel, pitch 1.27; PartNumber: ACA-SPI-006-K01; Manufacturer: LOTES; Package: 16 pin; Component Type: Connectors
footprint CON: ACA-SPI-006-K01 (FLASH) (SOIC-16 panel, pitch 1.27 mm)
pins: 1, 2, 3, 4, 5, 6, 7, 8, 9, 10, 11, 12, 13, 14, 15, 16
text: #

## CH224-2032
designator B?
Battery, type CR2032, -40...+105°C; Manufacturer: KLS; Manufacturer: NEXcell; TypeConnector: Single battery CR2032; HelpURL: https://www.chipdip.ru/product/bh-642; Manufacturer Part Number: CH224-2032; Component Type: Connectors; PartNumber: CH224-2032
footprint CON: CH224-2032 (Holder CR2032)
pins: 1 + (power), 2 - (power)

## CONUFL001-SMD-T
designator X?, comment u.FL
u.FL, 2 pins, RF type, 50 Ohms, 6GHz, -40...+125°C; PartNumber: CONUFL001-SMD-T; Manufacturer: Linx; Pitch: u.FL; HelpURL: https://eu.mouser.com/ProductDetail/Linx-Technologies/CONUFL001-SMD-T?qs=EU6FO9ffTwfRdkBeQTdJWQ%3D%3D
footprint CON: u.Fl
pins: 1, 2

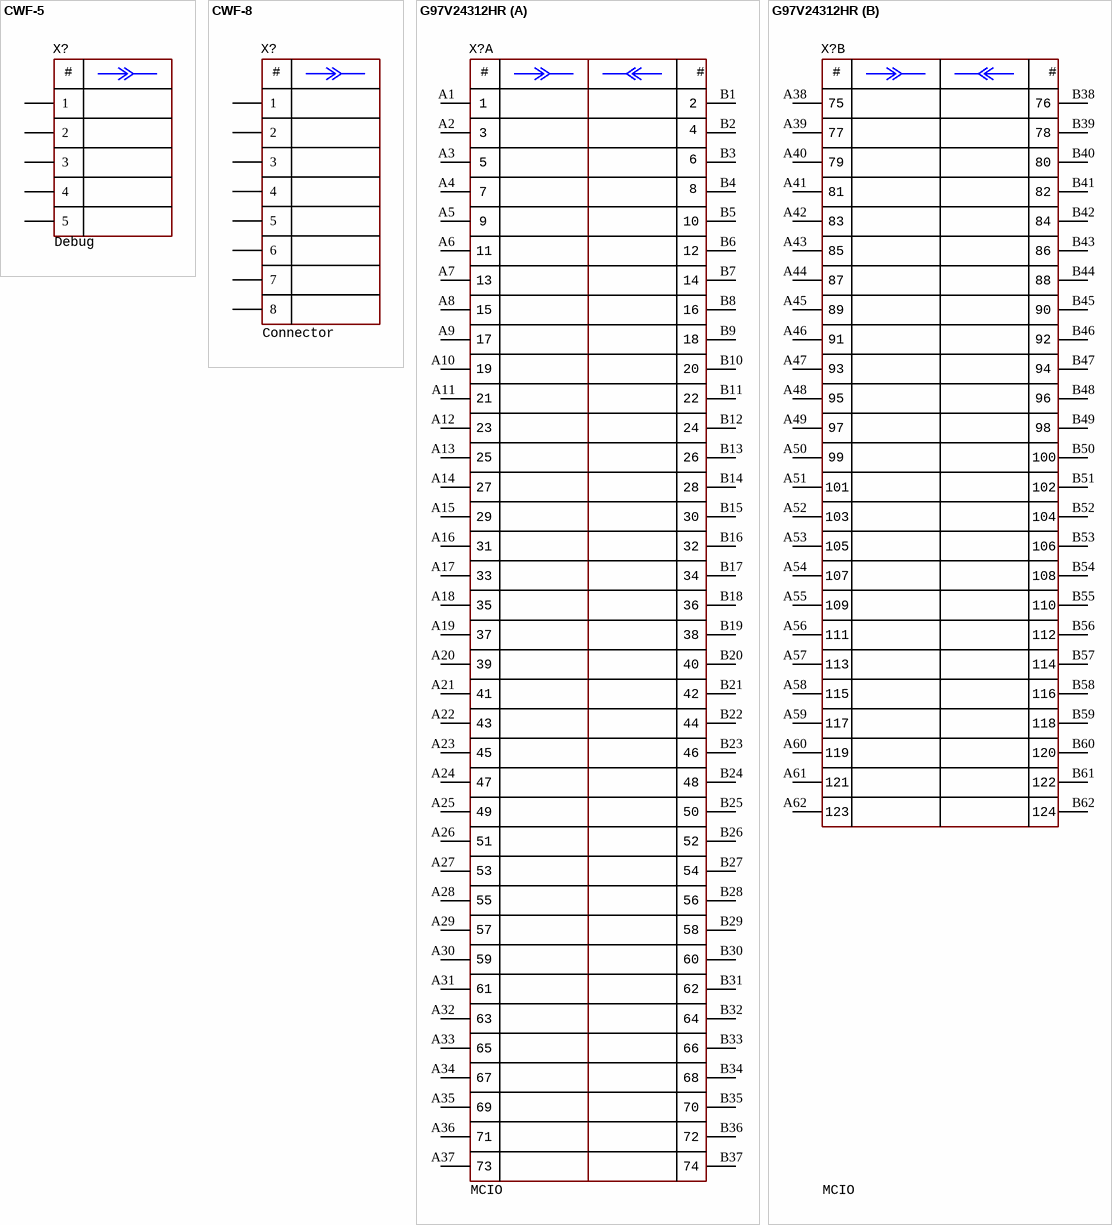
[diagram p5: symbols CWF-5 to G97V24312HR]

## CWF-5
designator X?, comment Debug
CWF series, 5 pins, pitch 2.5 mm, 3A/pin, -40...+125°C; Manufacturer: KLS; PartNumber: CWF-5; Pitch: 2.5 mm; HelpURL: https://www.electronshik.ru/item/KLS/CWF-5; Component Type: Connectors
footprint CON: CWF-5
pins: 1, 2, 3 (power), 4 (power), 5 (power)
text: #

## CWF-8
designator X?, comment Connector
8 pins, pitch 2.54 mm, 500VAC, 3A/pin, -40...+85°C; Manufacturer: Connfly; PartNumber: CWF-8; Pitch: 2.54mm; HelpURL: https://www.chipdip.ru/product/cwf-8
footprint CON: CWF-8
pins: 1, 2, 3 (power), 4 (power), 5 (power), 6 (power), 7 (power), 8 (power)
text: #

## G97V24312HR
designator X?, comment MCIO
MCIO, 124 pins, 56Gb/s, 85 Omhs, vertical, -55...+85°C; Manufacturer: Amphenol; PartNumber: G97V24312HR; Manufacturer: Amphenol ICC / FCI; Package: SFF-TA-1016; HelpURL: https://www.amphenol-icc.com/mini-cool-edge-io-g97v24312hr.html; Manufacturer Part Number: G97V24312HR; Component Type: Connectors
footprint CON: G97V24312HR (MCIO)
part A pins: A1, A2, A3, A4, A5, A6, A7, A8, A9, A10, A11, A12, A13, A14, A15, A16, A17, A18, A19, A20, A21, A22, A23, A24, A25, A26, A27, A28, A29, A30, A31, A32, A33, A34, A35, A36, A37, B1, B2, B3, B4, B5, B6, B7, B8, B9, B10, B11, B12, B13, B14, B15, B16, B17, B18, B19, B20, B21, B22, B23, B24, B25, B26, B27, B28, B29, B30, B31, B32, B33, B34, B35, B36, B37
part B pins: A38, A39, A40, A41, A42, A43, A44, A45, A46, A47, A48, A49, A50, A51, A52, A53, A54, A55, A56, A57, A58, A59, A60, A61, A62, B38, B39, B40, B41, B42, B43, B44, B45, B46, B47, B48, B49, B50, B51, B52, B53, B54, B55, B56, B57, B58, B59, B60, B61, B62
part A text: #; 1; 2; 3; 4; 5; 6; 7; 8; 9; 10; 11; 12; 13; 14; 15; 16; 17; 18; 19; 20; 21; 22; 23; 24; 25; 26; 27; 28; 29; 30; 31; 32; 33; 34; 35; 36; 37; 38; 39; 40; 41; 42; 43; 44; 45; 46; 47; 48; 49; 50; 51; 52; 53; 54; 55; 56; 57; 58; 59; 60; 61; 62; 63; 64; 65; 66; 67; 68; 69; 70; 71; 72; 73; 74
part B text: #; 75; 76; 77; 78; 79; 80; 81; 82; 83; 84; 85; 86; 87; 88; 89; 90; 91; 92; 93; 94; 95; 96; 97; 98; 99; 100; 101; 102; 103; 104; 105; 106; 107; 108; 109; 110; 111; 112; 113; 114; 115; 116; 117; 118; 119; 120; 121; 122; 123; 124

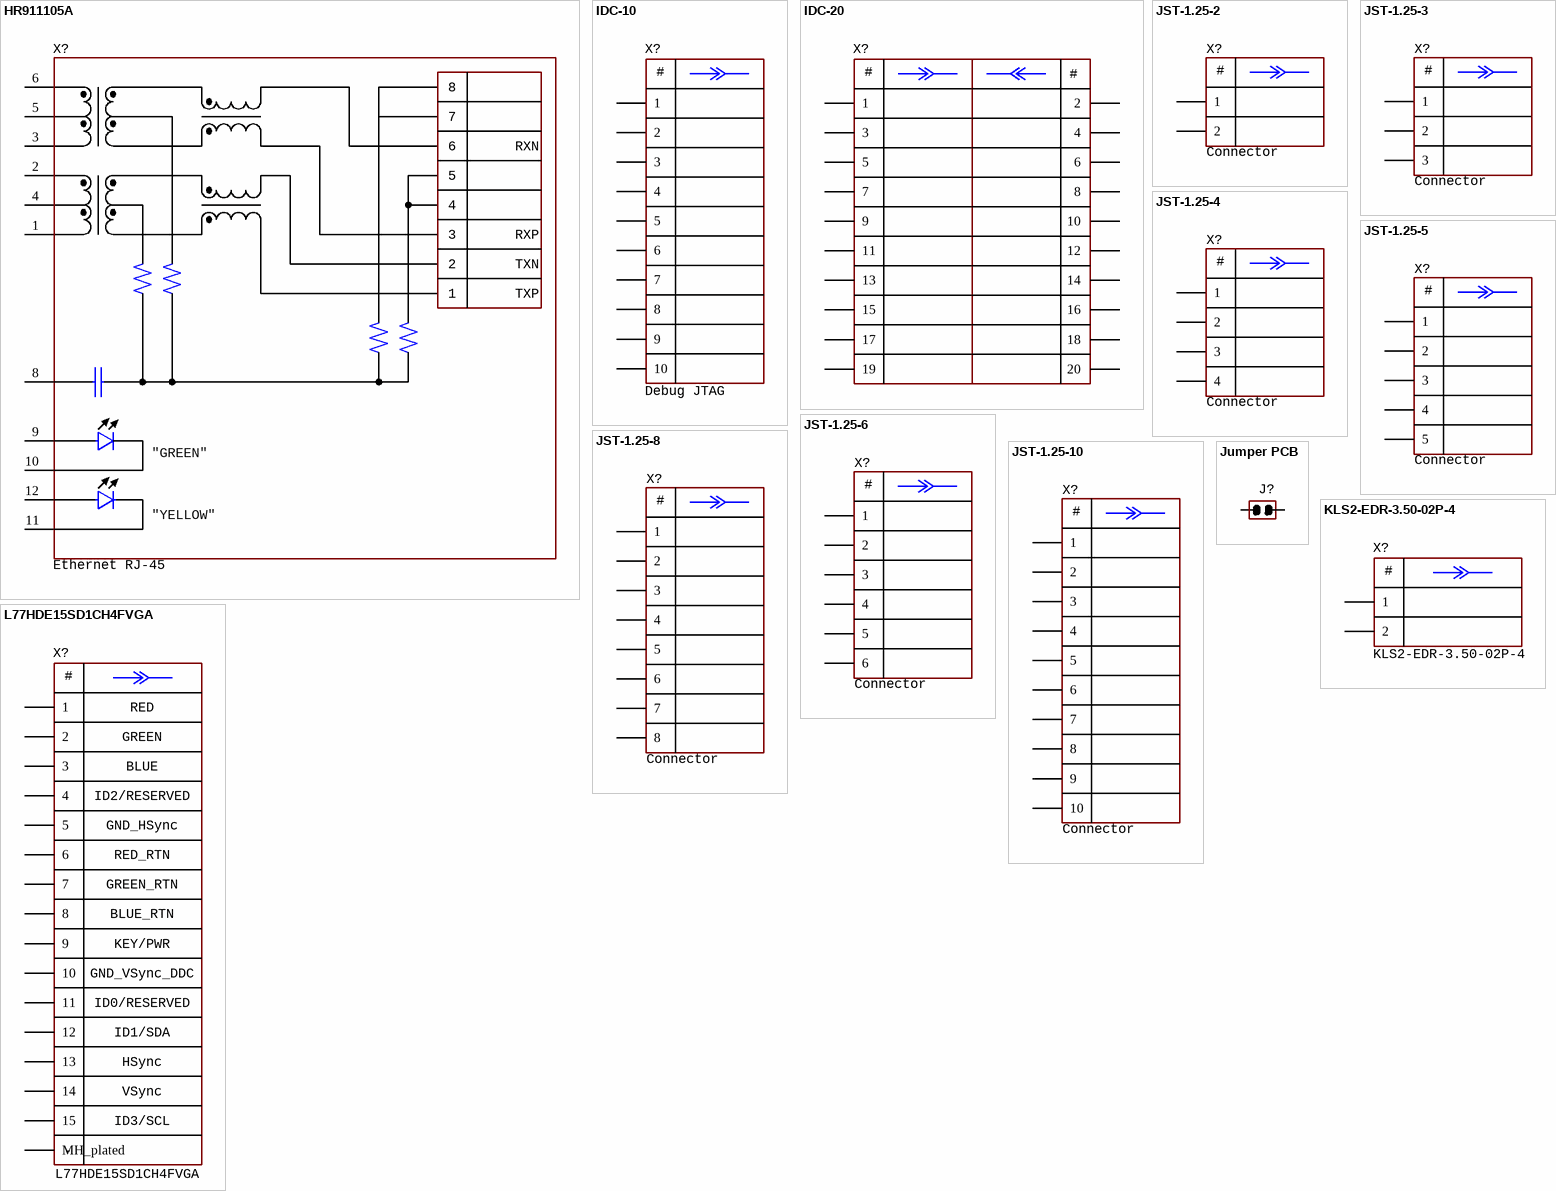
[diagram p6: symbols HR911105A to L77HDE15SD1CH4FVGA]

## HR911105A
designator X?  CommentText: Ethernet RJ-45
Ethernet RJ-45, 10/100 Mbit, 60VDC max, 8P8C; Manufacturer: Hanrun; PartNumber: HR911105A; TypeConnector: Etherner RJ-45 connector; HelpURL: https://ru.aliexpress.com/item/32244614847.html?spm=a2g0v.search0104.3.9.304d24e7qb4B5g&ws_ab_test=searchweb0_0%2Csearchweb201602_10_10065_10068_319_317_10696_453_10084_454_10083_10618_10307_10301_537_536_10059_10884_10887_321_322_10915_10103_10914_10911_10910%2Csearchweb201603_52%2CppcSwitch_0&algo_expid=ad591376-da58-472d-83c6-21bacd43ef2b-1&algo_pvid=ad591376-da58-472d-83c6-21bacd43ef2b&transAbTest=ae803_5
footprint CON: HR911105A
pins: 1 TD+, 2 TD-, 3 RD+, 4 CT, 5 CT, 6 RD-, 8 GND, 9 D2, 10 D1, 11 D3, 12 D4
text: 7; RXN; RXP; TXN; TXP; "GREEN"; "YELLOW"

## IDC-10
designator X?, comment Debug JTAG
Header, 10 pin, pitch 2.54mm, 250V, 2.5A, -55...120°C; Manufacturer: Connfly; PartNumber: IDC-10; Multichannel: 10pin; HelpURL: https://www.chipdip.ru/product/idc-10ms; Component Type: Connectors
footprint CON: IDC-10MS (IDC-10MS 10 pin PCB-mount header)
pins: 1, 2, 3 (power), 4 (power), 5 (power), 6 (power), 7 (power), 8 (power), 9 (power), 10 (power)
text: #

## IDC-20
designator X?, comment 20 pin, 2.54 mm  (value not drawn)
Header, 20 pins, pitch 2.54mm, 250V, 2.5A, -55...120°C; Manufacturer: Connfly; PartNumber: IDC-20; Multichannel: 20 pins; HelpURL: https://www.chipdip.ru/product/idc-20ms; Component Type: Connectors
footprint CON: IDC-20MS
pins: 1, 2, 3 (power), 4 (power), 5 (power), 6 (power), 7 (power), 8 (power), 9 (power), 10 (power), 11, 12, 13 (power), 14 (power), 15 (power), 16 (power), 17 (power), 18 (power), 19 (power), 20 (power)
text: #

## JST-1.25-2
designator X?, comment Connector
JST GH series, 2 pin, pitch 1.25 mm, 250V, -30...90°C; PartNumber: JST-1.25-2; Pitch: 1.25; Manufacturer: JST; HelpURL: https://aliexpress.ru/item/10000014284094.html?sku_id=20000000026820478&spm=a2g2w.productlist.search_results.0.4f544aa6u5sRnc
footprint CON: JST-1.25 (2 pins)
pins: 1, 2
text: #

## JST-1.25-3
designator X?, comment Connector
JST GH series, 2 pin, pitch 1.25 mm, 250V, -30...90°C; PartNumber: JST-1.25-2; Pitch: 1.25; Manufacturer: JST; HelpURL: https://aliexpress.ru/item/10000014284094.html?sku_id=20000000026820478&spm=a2g2w.productlist.search_results.0.4f544aa6u5sRnc
footprint CON: JST-1.25 (3 pins)
pins: 1, 2, 3
text: #

## JST-1.25-4
designator X?, comment Connector
JST GH series, 2 pin, pitch 1.25 mm, 250V, -30...90°C; PartNumber: JST-1.25-2; Pitch: 1.25; Manufacturer: JST; HelpURL: https://aliexpress.ru/item/10000014284094.html?sku_id=20000000026820478&spm=a2g2w.productlist.search_results.0.4f544aa6u5sRnc
footprint CON: JST-1.25 (4 pins)
pins: 1, 2, 3, 4
text: #

## JST-1.25-5
designator X?, comment Connector
JST GH series, 2 pin, pitch 1.25 mm, 250V, -30...90°C; PartNumber: JST-1.25-2; Pitch: 1.25; Manufacturer: JST; HelpURL: https://aliexpress.ru/item/10000014284094.html?sku_id=20000000026820478&spm=a2g2w.productlist.search_results.0.4f544aa6u5sRnc
footprint CON: JST-1.25 (5 pins)
pins: 1, 2, 3 (power), 4 (power), 5 (power)
text: #

## JST-1.25-6
designator X?, comment Connector
JST GH series, 2 pin, pitch 1.25 mm, 250V, -30...90°C; PartNumber: JST-1.25-2; Pitch: 1.25; Manufacturer: JST; HelpURL: https://aliexpress.ru/item/10000014284094.html?sku_id=20000000026820478&spm=a2g2w.productlist.search_results.0.4f544aa6u5sRnc
footprint CON: JST-1.25 (6 pins)
pins: 1, 2, 3 (power), 4 (power), 5 (power), 6 (power)
text: #

## JST-1.25-8
designator X?, comment Connector
JST GH series, 2 pin, pitch 1.25 mm, 250V, -30...90°C; PartNumber: JST-1.25-2; Pitch: 1.25; Manufacturer: JST; HelpURL: https://aliexpress.ru/item/10000014284094.html?sku_id=20000000026820478&spm=a2g2w.productlist.search_results.0.4f544aa6u5sRnc
footprint CON: JST-1.25 (8 pins)
pins: 1, 2, 3 (power), 4 (power), 5 (power), 6 (power), 7 (power), 8 (power)
text: #

## JST-1.25-10
designator X?, comment Connector
JST GH series, 2 pin, pitch 1.25 mm, 250V, -30...90°C; PartNumber: JST-1.25-2; Pitch: 1.25; Manufacturer: JST; HelpURL: https://aliexpress.ru/item/10000014284094.html?sku_id=20000000026820478&spm=a2g2w.productlist.search_results.0.4f544aa6u5sRnc
footprint CON: JST-1.25 (10 pins)
pins: 1, 2, 3 (power), 4 (power), 5 (power), 6 (power), 7 (power), 8 (power), 9 (power), 10 (power)
text: #

## Jumper PCB
designator J?  (value not drawn)
Jumper PCB, 1 pin, ring diameter 1.00 mm; Package: 1.00 mm; PartNumber: Jumper PCB
footprint CON: JUMPER x1
pins: 1 IN, 2

## KLS2-EDR-3.50-02P-4
designator X?
Right angle, 2 pins, pitch 3.5mm, 300V, 8A, -40...+105°C; Manufacturer: KLS electronic; Package: 2 pins; HelpURL: https://www.chipdip.ru/product/kls2-edr-3.50-02p-4-15edgrc-3.5-02p; Component Type: Connectors; PartNumber: KLS2-EDR-3.50-02P-4
footprint CON: KLS2-EDR-3.50-02P-4 (KLS2 2 pins)
pins: 1, 2
text: #

## L77HDE15SD1CH4FVGA
designator X?
D-SUB VGA, 15 pin, 600VAC, 3A,  -55...125°C; Manufacturer: Amphenol; Manufacturer: Amphenol Industrial; Package: D-SUB; HelpURL: https://www.mouser.com/ProductDetail/Amphenol-Commercial-Products/L77HDE15SD1CH4FVGA?qs=sGAEpiMZZMtXHE36kCvv3zZraZmNsAPfbWUbu6UXUq8%3D; Manufacturer Part Number: L77HDE15SD1CH4FVGA; Component Type: Connectors; PartNumber: L77HDE15SD1CH4FVGA
footprint CON: L77HDE15SD1CH4FVGA (d-sub vga 15 PINS, aMPHENOL)
pins: 1, 2, 3, 4, 5, 6, 7, 8, 9, 10, 11, 12, 13, 14, 15, MH_plated
text: #; RED; GREEN; BLUE; ID2/RESERVED; GND_HSync; RED_RTN; GREEN_RTN; BLUE_RTN; KEY/PWR; GND_VSync_DDC; ID0/RESERVED; ID1/SDA; HSync; VSync; ID3/SCL; -

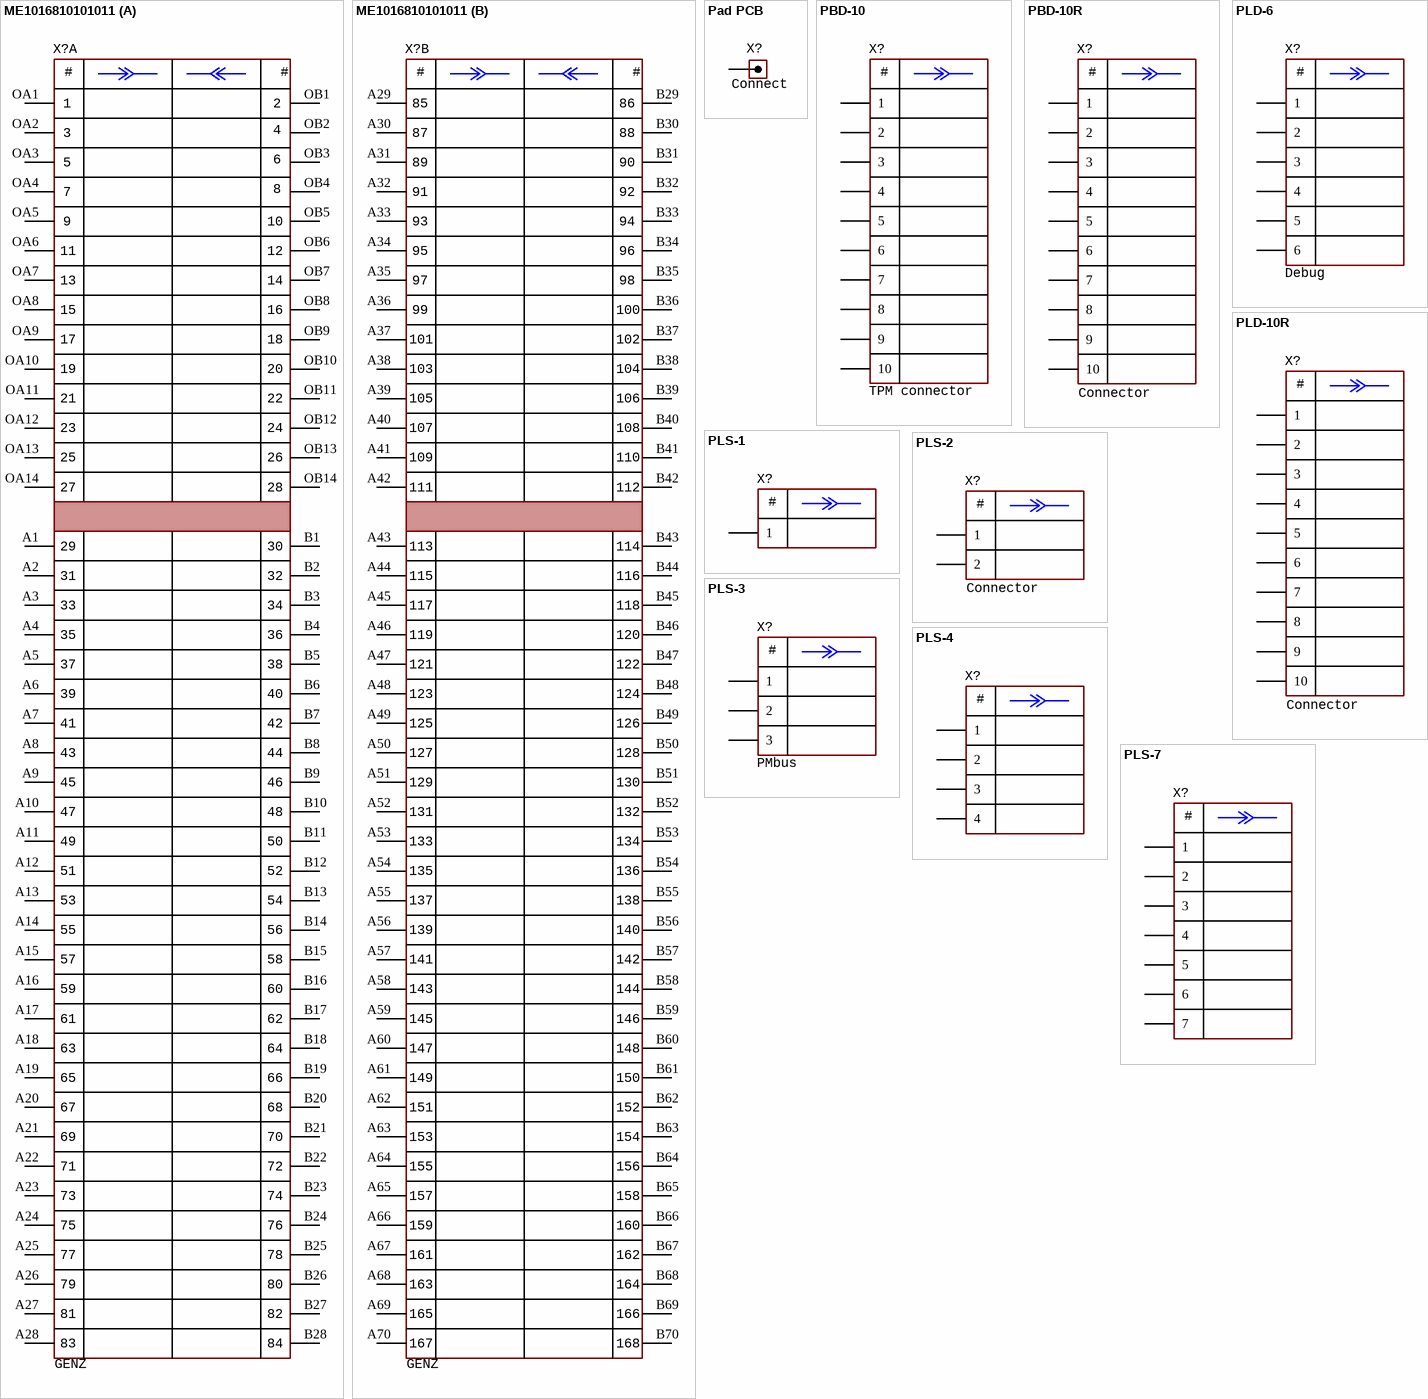
[diagram p7: symbols ME1016810101011 to PLS-7]

## ME1016810101011
designator X?, comment GENZ
GENZ, 168 pins, pitch 0.6 mm, 85 Omhs, vertical, -55...+85°C; Manufacturer: Amphenol; PartNumber: ME1016810101011; Manufacturer: AMPHENOL ICC (FCI); Package: Mini Cool Edge; HelpURL: https://ru.mouser.com/ProductDetail/Amphenol-FCI/ME1016810101011?qs=u16ybLDytRYfIVVo2f%252BVPA%3D%3D; Manufacturer Part Number: ME1016810101011; Component Type: Connectors
footprint CON: ME1016810101011 (GENZ, OCP 3.0)
part A pins: A1, A2, A3, A4, A5, A6, A7, A8, A9, A10, A11, A12, A13, A14, A15, A16, A17, A18, A19, A20, A21, A22, A23, A24, A25, A26, A27, A28, B1, B2, B3, B4, B5, B6, B7, B8, B9, B10, B11, B12, B13, B14, B15, B16, B17, B18, B19, B20, B21, B22, B23, B24, B25, B26, B27, B28, OA1, OA2, OA3, OA4, OA5, OA6, OA7, OA8, OA9, OA10, OA11, OA12, OA13, OA14, OB1, OB2, OB3, OB4, OB5, OB6, OB7, OB8, OB9, OB10, OB11, OB12, OB13, OB14
part B pins: A29, A30, A31, A32, A33, A34, A35, A36, A37, A38, A39, A40, A41, A42, A43, A44, A45, A46, A47, A48, A49, A50, A51, A52, A53, A54, A55, A56, A57, A58, A59, A60, A61, A62, A63, A64, A65, A66, A67, A68, A69, A70, B29, B30, B31, B32, B33, B34, B35, B36, B37, B38, B39, B40, B41, B42, B43, B44, B45, B46, B47, B48, B49, B50, B51, B52, B53, B54, B55, B56, B57, B58, B59, B60, B61, B62, B63, B64, B65, B66, B67, B68, B69, B70
part A text: #; 1; 2; 3; 4; 5; 6; 7; 8; 9; 10; 11; 12; 13; 14; 15; 16; 17; 18; 19; 20; 21; 22; 23; 24; 25; 26; 27; 28; 29; 30; 31; 32; 33; 34; 35; 36; 37; 38; 39; 40; 41; 42; 43; 44; 45; 46; 47; 48; 49; 50; 51; 52; 53; 54; 55; 56; 57; 58; 59; 60; 61; 62; 63; 64; 65; 66; 67; 68; 69; 70; 71; 72; 73; 74; 75; 76; 77; 78; 79; 80; 81; 82; 83; 84
part B text: #; 85; 86; 87; 88; 89; 90; 91; 92; 93; 94; 95; 96; 97; 98; 99; 100; 101; 102; 103; 104; 105; 106; 107; 108; 109; 110; 111; 112; 113; 114; 115; 116; 117; 118; 119; 120; 121; 122; 123; 124; 125; 126; 127; 128; 129; 130; 131; 132; 133; 134; 135; 136; 137; 138; 139; 140; 141; 142; 143; 144; 145; 146; 147; 148; 149; 150; 151; 152; 153; 154; 155; 156; 157; 158; 159; 160; 161; 162; 163; 164; 165; 166; 167; 168

## Pad PCB
designator X?, comment Connect
Pad, 1 pin, pitch 2.54 mm; PartNumber: Testpoint; Package: 2.54mm
footprint CON: PAD 2.54 mm
pins: 1 IN

## PBD-10
designator X?  PartNumber: TPM connector  (hidden comment: PBD-10)
PBD, 10 pins, pitch 2.54 mm, 1A/pin, -40...+105°C; Manufacture: Connfly; Manufacturer: Samtec; Manufacturer Part Number: IPBD-10-D-R; Pitch: 2.54 mm; HelpURL: https://www.chipdip.ru/product/pbd-10; Component Type: Connectors
footprint CON: PBD-10
pins: 1, 2, 3 (power), 4 (power), 5 (power), 6 (power), 7 (power), 8 (power), 9 (power), 10 (power)
text: #

## PBD-10R
designator X?, comment Connector
PBD, 10 pins, pitch 2.54 mm, 1A/pin, -40...+105°C; Manufacture: Connfly; PartNumber: PBD-10R; Pitch: 2.54 mm; HelpURL: https://www.chipdip.ru/product/pbd-10r
footprint CON: PBD-10R
pins: 1, 2, 3 (power), 4 (power), 5 (power), 6 (power), 7 (power), 8 (power), 9 (power), 10 (power)
text: #

## PLD-6
designator X?  PartNumber: Debug  (hidden comment: PLD-6)
6 pins, pitch 2.54 mm, 500VAC, 2A/pin, -40...+85°C; Manufacturer: Connfly; Pitch: 2.54mm; HelpURL: https://www.chipdip.ru/product/pld-6; Component Type: Connectors
footprint CON: PLD-6
pins: 1, 2, 3 (power), 4 (power), 5 (power), 6 (power)
text: #

## PLD-10R
designator X?, comment Connector
10 pins, pitch 2.54 mm, 500VAC, 2A/pin, -40...+85°C; Manufacturer: Connfly; PartNumber: PLD-10R; Pitch: 2.54mm; HelpURL: https://www.chipdip.ru/product/ds1022-2-5-rf11-pld-10r
footprint CON: PLD-10R
pins: 1, 2, 3 (power), 4 (power), 5 (power), 6 (power), 7 (power), 8 (power), 9 (power), 10 (power)
text: #

## PLS-1
designator X?, comment Debug #0  (value not drawn)
1 pin, pitch 2.54 mm, 3A/pin, 500VAC; PartNumber: PLS-1; Manufacturer: Connfly; Pitch: 2.54mm; HelpURL: https://www.chipdip.ru/product/pls-4
footprint CON: PLS-1
pins: 1
text: #

## PLS-2
designator X?, comment Connector
2 pins, pitch 2.54 mm, 500VAC, 2A/pin, -40...+85°C; Manufacturer: Connfly; PartNumber: PLS-2; Manufacturer Part Number: PLS-3; Pitch: 2.54mm; HelpURL: https://www.chipdip.ru/product/pls-3; Component Type: Connectors
footprint CON: PLS-2
pins: 1, 2
text: #

## PLS-3
designator X?, comment PMbus
3 pins, pitch 2.54 mm, 500VAC, 2A/pin, -40...+85°C; Manufacturer: Connfly; PartNumber: PLS-3; Pitch: 2.54mm; HelpURL: https://www.chipdip.ru/product/pls-3; Manufacturer Part Number: PLS-3; Component Type: Connectors
footprint CON: PLS-3
pins: 1, 2, 3 (power)
text: #

## PLS-4
designator X?, comment Debug #0  (value not drawn)
PLS connector, 4 pins, pitch 2.54 mm, 3A/pin, 500VAC; PartNumber: PLS-4; Manufacturer: Connfly; Manufacturer: Ningbo Connfly Electric; Manufacturer Part Number: DS1021-1*4SF1-1; Pitch: 2.54mm; HelpURL: https://www.chipdip.ru/product/pls-4; Component Type: Connectors
footprint CON: PLS-4 (Connector) (PLS-4 pin header)
pins: 1, 2, 3 (power), 4 (power)
text: #

## PLS-7
designator X?, comment Debug #0  (value not drawn)
PLS connector, 7 pins, pitch 2.00 mm, 3A/pin, 500VAC; PartNumber: DS1025-01-1x7; Manufacturer: Connfly; Pitch: 2.00mm; HelpURL: https://www.chipdip.ru/product/pls2-40
footprint CON: PLS-7 (pitch 2.00 mm)
pins: 1, 2, 3 (power), 4 (power), 5 (power), 6 (power), 7 (power)
text: #

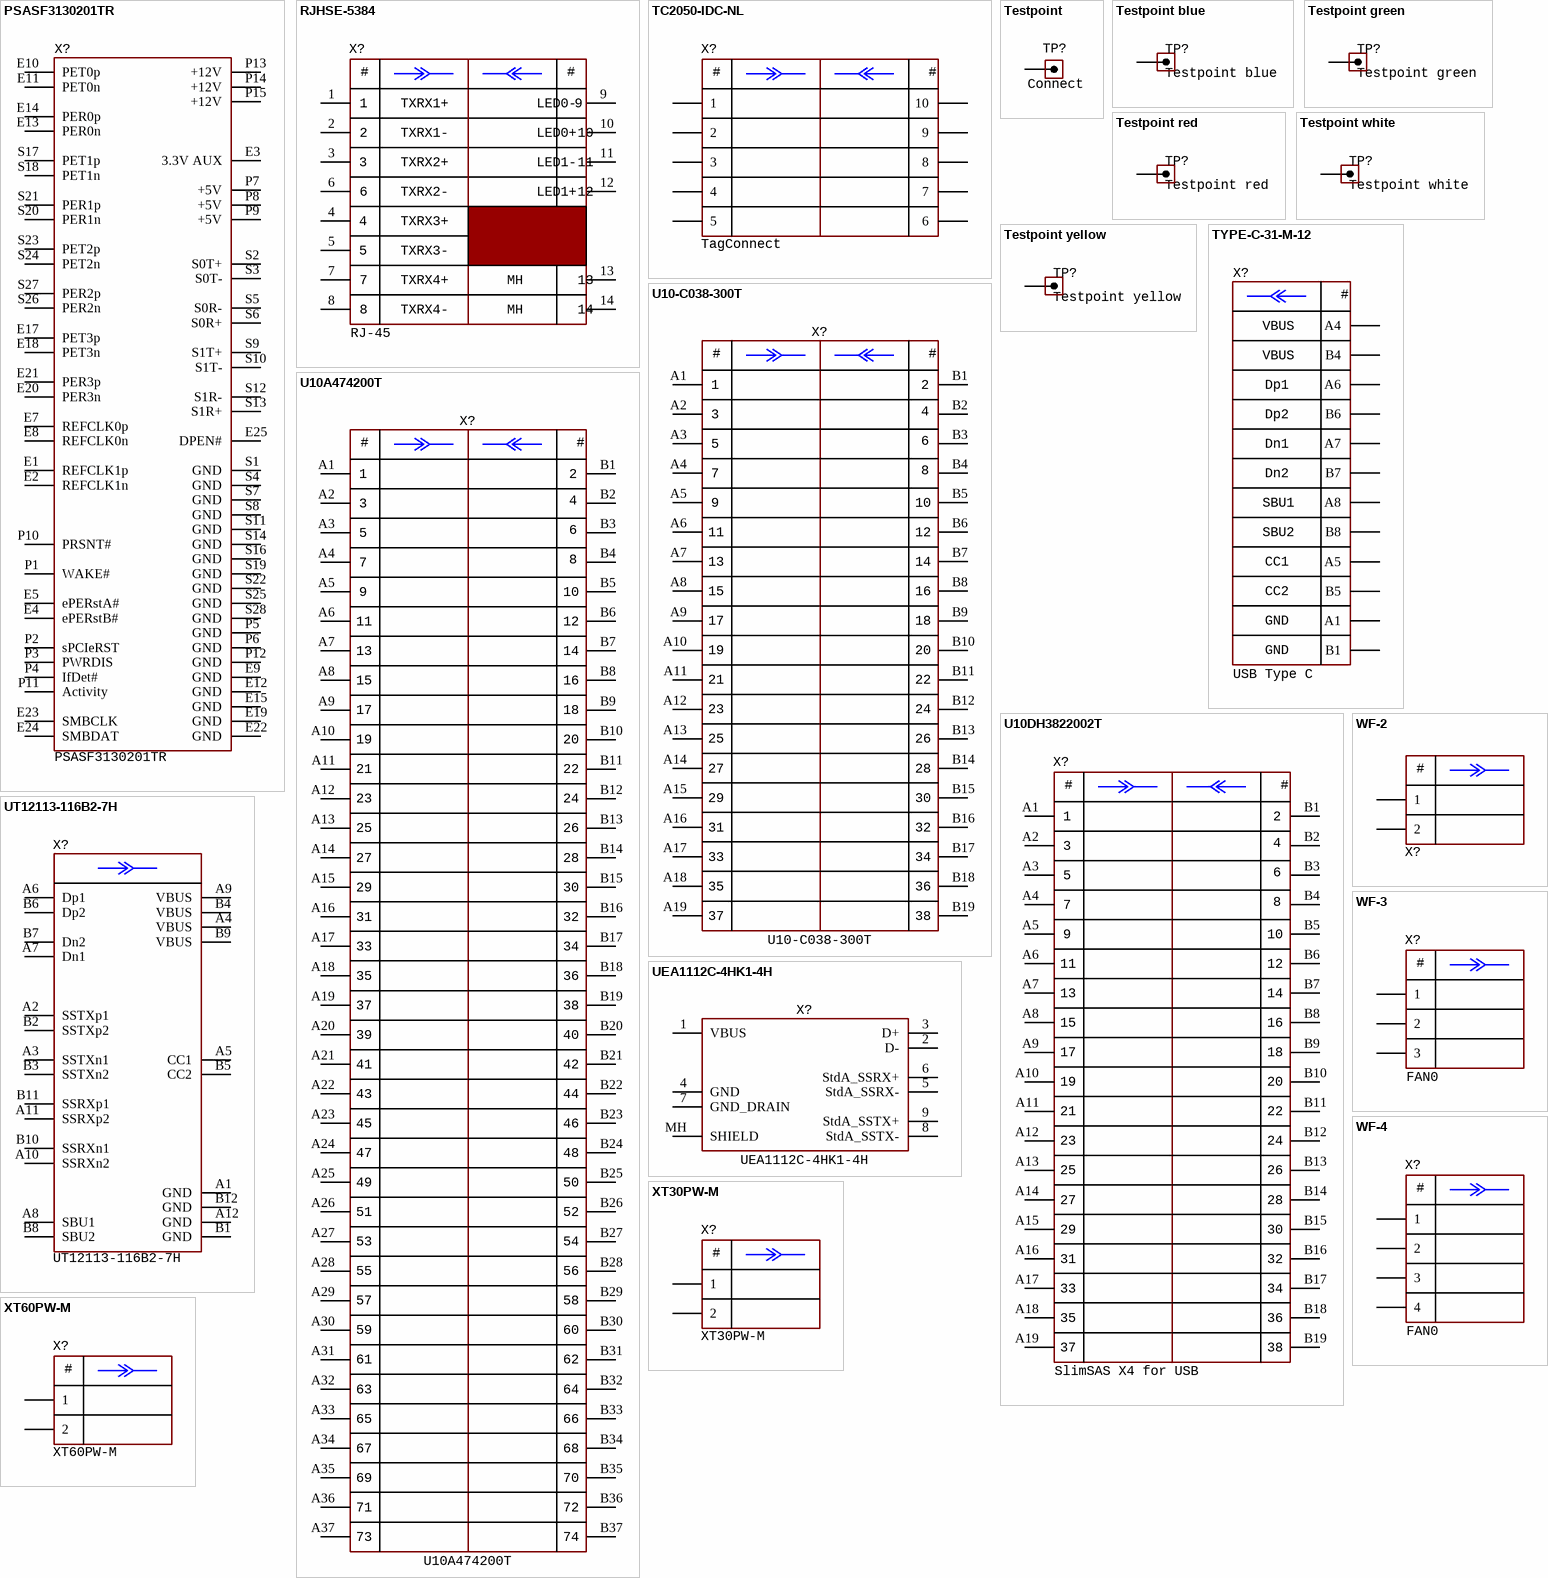
[diagram p8: symbols PSASF3130201TR to XT60PW-M]

## PSASF3130201TR
designator X?
U.2, 68 pins, 12G, 1.5A/pin, 0...+55°C; Manufacturer: Amphenol; Package: U.2; HelpURL: https://ru.mouser.com/ProductDetail/Amphenol-FCI/PSASF3130201TR?qs=vLWxofP3U2zf5uYX3%2Fn71A%3D%3D; Manufacturer Part Number: PSASF3130201TR; Component Type: Connectors; PartNumber: PSASF3130201TR
footprint CON: PSASF3130201TR (NVME)
pins: E1 REFCLK1p, E2 REFCLK1n, E3 3.3V AUX, E4 ePERstB#, E5 ePERstA#, E7 REFCLK0p, E8 REFCLK0n, E9 GND, E10 PET0p, E11 PET0n, E12 GND, E13 PER0n, E14 PER0p, E15 GND, E17 PET3p, E18 PET3n, E19 GND, E20 PER3n, E21 PER3p, E22 GND, E23 SMBCLK, E24 SMBDAT, E25 DPEN#, P1 WAKE#, P2 sPCIeRST, P3 PWRDIS, P4 IfDet#, P5 GND, P6 GND, P7 +5V, P8 +5V, P9 +5V, P10 PRSNT#, P11 Activity, P12 GND, P13 +12V, P14 +12V, P15 +12V, S1 GND, S2 S0T+, S3 S0T-, S4 GND, S5 S0R-, S6 S0R+, S7 GND, S8 GND, S9 S1T+, S10 S1T-, S11 GND, S12 S1R-, S13 S1R+, S14 GND, S16 GND, S17 PET1p, S18 PET1n, S19 GND, S20 PER1n, S21 PER1p, S22 GND, S23 PET2p, S24 PET2n, S25 GND, S26 PER2n, S27 PER2p, S28 GND

## RJHSE-5384
designator X?, comment RJ-45
RJ45, 8p8c, Yellow/Green LED, -55...85°C; Manufacturer: Amphenol; Manufacturer: Amphenol Commercial; PartNumber: RJHSE-5384; Pitch: RJ45; HelpURL: https://www.digikey.com/en/products/detail/amphenol-icc-commercial-products/RJHSE-5384/1242697; Manufacturer Part Number: RJHSE-5384; Component Type: Connectors
footprint CON: 615008137421 (RJ-45/Wurth)
pins: 1, 2, 3, 4, 5, 6, 7, 8, 9, 10, 11, 12, 13, 14
text: #; TXRX1+; LED0-; TXRX1-; LED0+; TXRX2+; LED1-; TXRX2-; LED1+; TXRX3+; TXRX3-; TXRX4+; MH; TXRX4-

## TC2050-IDC-NL
designator X?  PartNumber: TagConnect  (hidden comment: TC2050-IDC-NL)
TagConnect, 10 pins, pitch 2.54 mm,; Manufacturer: Tag-Connect; HelpURL: https://www.tag-connect.com/product/tc2050-idc-nl-10-pin-no-legs-cable-with-ribbon-connector; Manufacturer: TagConnect; Package: IDC-10; Manufacturer Part Number: TC2050-IDC-NL; Component Type: Connectors
footprint CON: TC2050-IDC-NL
pins: 1, 2, 3 (power), 4 (power), 5 (power), 6 (power), 7 (power), 8 (power), 9 (power), 10 (power)
text: #

## Testpoint
designator TP?, comment Connect
Testpoint, 1 pin, ring diameter 1.00 mm; Package: 1.00 mm; PartNumber: Testpoint
footprint CON: PAD
pins: 1 IN

## Testpoint blue
designator TP?
Testpoint, 1 pin, blue bead, ring diameter 2.54 mm; Manufacturer: China; HelpURL: https://aliexpress.ru/item/32868724174.html?spm=a2g2w.productlist.0.0.89e01a88a7tCoR; Package: 1 pin ring; Component Type: Connectors; PartNumber: Testpoint blue
footprint Testpoint_ring_bead_blue
pins: 1 IN

## Testpoint green
designator TP?
Testpoint, 1 pin, green bead, ring diameter 2.54 mm; Manufacturer: China; Package: 1 pin ring; HelpURL: https://aliexpress.ru/item/32868724174.html?spm=a2g2w.productlist.0.0.89e01a88a7tCoR; Component Type: Connectors; PartNumber: Testpoint green
footprint Testpoint_ring_bead_green
pins: 1 IN

## Testpoint red
designator TP?
Testpoint, 1 pin, red bead, ring diameter 2.54 mm; Manufacturer: China; HelpURL: https://aliexpress.ru/item/32868724174.html?spm=a2g2w.productlist.0.0.89e01a88a7tCoR; Package: 1 pin ring; Component Type: Connectors; PartNumber: Testpoint red
footprint Testpoint_ring_bead_red
pins: 1 IN

## Testpoint white
designator TP?
Testpoint, 1 pin, white bead, ring diameter 2.54 mm; Manufacturer: China; HelpURL: https://aliexpress.ru/item/32868724174.html?spm=a2g2w.productlist.0.0.89e01a88a7tCoR; Package: 1 pin ring; Component Type: Connectors; PartNumber: Testpoint white
footprint Testpoint_ring_bead_white
pins: 1 IN

## Testpoint yellow
designator TP?
Testpoint, 1 pin, yellow bead, ring diameter 2.54 mm; Manufacturer: China; Package: 1 pin ring; HelpURL: https://aliexpress.ru/item/32868724174.html?spm=a2g2w.productlist.0.0.89e01a88a7tCoR; Component Type: Connectors; PartNumber: Testpoint yellow
footprint Testpoint_ring_bead_yellow
pins: 1 IN

## TYPE-C-31-M-12
designator X?, comment USB Type C
USB 3.1, Type C, 16 pins, 20V, 3.0A, -40...+85°C; Manufacturer: Korean Hroparts; PartNumber: TYPE-C-31-M-12; HelpURL: https://lcsc.com/product-detail/USB-Type-C_Korean-Hroparts-Elec-TYPE-C-31-M-12_C165948.html; Package: Type C, 16 pins
footprint CON: TYPE-C-31-M-12 (USB)
pins: A1, A4, A5, A6, A7, A8, B1, B4, B5, B6, B7, B8
text: #; VBUS; Dp1; Dp2; Dn1; Dn2; SBU1; SBU2; CC1; CC2; GND

## U10-C038-300T
designator X?
SlimSAS, x4 line, 38 pins, right angle; Manufacturer: Amphenol; Manufacturer: Amphenol Commercial; Multichannel: 38pin; HelpURL: https://ru.mouser.com/ProductDetail/Amphenol-Commercial-Products/U10-C038-300T?qs=y%252Bz5UbLoOA9SnJJzkRcx2g%3D%3D; Manufacturer Part Number: U10-C038-300T; Component Type: Connectors; PartNumber: U10-C038-300T
footprint CON: U10-C038-300T (slimSAS 38 pin) (Amphenol)
pins: A1, A2, A3, A4, A5, A6, A7, A8, A9, A10, A11, A12, A13, A14, A15, A16, A17, A18, A19, B1, B2, B3, B4, B5, B6, B7, B8, B9, B10, B11, B12, B13, B14, B15, B16, B17, B18, B19
text: #; 1; 2; 3; 4; 5; 6; 7; 8; 9; 10; 11; 12; 13; 14; 15; 16; 17; 18; 19; 20; 21; 22; 23; 24; 25; 26; 27; 28; 29; 30; 31; 32; 33; 34; 35; 36; 37; 38

## U10A474200T
designator X?
SlimSAS, x8 line, 74 pins, 0.5A/pin, 24 GT/s, Right angle, -55...+85°C; Manufacturer: Amphenol; Multichannel: 74pin; HelpURL: https://www.amphenol-cs.com/slim-line-sas-u10a474200t.html; Manufacturer Part Number: U10A474200T; PartNumber: U10A474200T
footprint CON: 2356320-1 (slimSAS: or U10A474200T) (TE manufacture)
pins: A1, A2, A3, A4, A5, A6, A7, A8, A9, A10, A11, A12, A13, A14, A15, A16, A17, A18, A19, A20, A21, A22, A23, A24, A25, A26, A27, A28, A29, A30, A31, A32, A33, A34, A35, A36, A37, B1, B2, B3, B4, B5, B6, B7, B8, B9, B10, B11, B12, B13, B14, B15, B16, B17, B18, B19, B20, B21, B22, B23, B24, B25, B26, B27, B28, B29, B30, B31, B32, B33, B34, B35, B36, B37
text: #; 1; 2; 3; 4; 5; 6; 7; 8; 9; 10; 11; 12; 13; 14; 15; 16; 17; 18; 19; 20; 21; 22; 23; 24; 25; 26; 27; 28; 29; 30; 31; 32; 33; 34; 35; 36; 37; 38; 39; 40; 41; 42; 43; 44; 45; 46; 47; 48; 49; 50; 51; 52; 53; 54; 55; 56; 57; 58; 59; 60; 61; 62; 63; 64; 65; 66; 67; 68; 69; 70; 71; 72; 73; 74

## U10DH3822002T
designator X?, comment SlimSAS X4 for USB
SlimSAS, x4 line, 38 pins, 24 GT/s, verticale; PartNumber: U10DH3822002T; Manufacturer: Amphenol; Multichannel: 38pin; HelpURL: https://ru.mouser.com/ProductDetail/Amphenol/U10DH3822002T?qs=PzGy0jfpSMtWxNJ%2F6FtPfQ%3D%3D; Manufacturer Part Number: U10DH3822002T; Component Type: Connectors
footprint CON: U10DH3822002T (SlimSAS x4) (Amphenol)
pins: A1, A2, A3, A4, A5, A6, A7, A8, A9, A10, A11, A12, A13, A14, A15, A16, A17, A18, A19, B1, B2, B3, B4, B5, B6, B7, B8, B9, B10, B11, B12, B13, B14, B15, B16, B17, B18, B19
text: #; 1; 2; 3; 4; 5; 6; 7; 8; 9; 10; 11; 12; 13; 14; 15; 16; 17; 18; 19; 20; 21; 22; 23; 24; 25; 26; 27; 28; 29; 30; 31; 32; 33; 34; 35; 36; 37; 38

## UEA1112C-4HK1-4H
designator X?
USB 3.0, 9 pins, 30V, 1.8A, -20...+85°C; Manufacturer: Foxconn; Package: 9 pins; HelpURL: https://www.fit-foxconn.com/Product/ProductDetail?topClassID=&&PN=UEA1112C-4HK1-4H; Manufacturer Part Number: UEA1112C-4HK1-4H; Component Type: Connectors; PartNumber: UEA1112C-4HK1-4H
footprint CON: UEA1112C-4HK1-4H (USB)
pins: 1 VBUS, 2 D-, 3 D+, 4 GND, 5 StdA_SSRX-, 6 StdA_SSRX+, 7 GND_DRAIN, 8 StdA_SSTX-, 9 StdA_SSTX+, MH SHIELD

## UT12113-116B2-7H
designator X?
USB 3.1, Type C, 24 pins, 20V, 3.0A, -40...+85°C; Manufacturer: Foxconn; Package: Type C, 24 pins; HelpURL: https://lcsc.com/product-detail/USB-Connectors_FOXCONN-UT12113-116B2-7H_C410549.html; Manufacturer Part Number: UT12113-116B2-7H; Component Type: Connectors; PartNumber: UT12113-116B2-7H
footprint CON: UT12113-116B2-7H (USB type C)
pins: A1 GND, A2 SSTXp1, A3 SSTXn1, A4 VBUS, A5 CC1, A6 Dp1, A7 Dn1, A8 SBU1, A9 VBUS, A10 SSRXn2, A11 SSRXp2, A12 GND, B1 GND, B2 SSTXp2, B3 SSTXn2, B4 VBUS, B5 CC2, B6 Dp2, B7 Dn2, B8 SBU2, B9 VBUS, B10 SSRXn1, B11 SSRXp1, B12 GND

## WF-2
designator X?, comment FAN  (value not drawn)
WF series, 2 pin, pitch 2.54 mm, 250V, -30...90°C; Manufacturer: Connfly; PartNumber: WF-2; Pitch: 2.54mm; HelpURL: https://www.chipdip.ru/product/wf-2; Component Type: Connectors
footprint CON: WF-02
pins: 1, 2
text: #

## WF-3
designator X?, comment FAN0
WF series, 3 pin, pitch 2.54 mm, 250V, -30...90°C; PartNumber: WF-3; Manufacturer: Connfly; Pitch: 2.54mm; HelpURL: https://www.chipdip.ru/product/wf-3; Component Type: Connectors
footprint CON: WF-03
pins: 1, 2, 3
text: #

## WF-4
designator X?, comment FAN0
WF series, 4 pin, pitch 2.54 mm, 250V, -30...90°C; PartNumber: WF-4; Manufacturer: Connfly; Pitch: 2.54mm; HelpURL: https://www.chipdip.ru/product/wf-4
footprint CON: WF-04
pins: 1, 2, 3, 4
text: #

## XT30PW-M
designator X?
XT series, 30A, 2 pin, 500VDC, pitch 5.0 mm; Manufacturer: AMASS; Manufacturer: Unclassified; Pitch: 5.0mm; HelpURL: https://www.chipdip.ru/product0/8007037917; Manufacturer Part Number: XT30PW-M; Component Type: Connectors; PartNumber: XT30PW-M
footprint CON: XT30PW-M
pins: 1, 2
text: #

## XT60PW-M
designator X?
XT series, 60A, 2 pin, 500VDC, pitch 5.0 mm; Manufacturer: AMASS; Pitch: 5.0mm; HelpURL: https://www.chipdip.ru/product0/8002745096; PartNumber: XT60PW-M
footprint CON: XT60PW-M
pins: 1, 2
text: #